# Altium integrated library Atmel Microcontroller ARM.IntLib: 148 symbols (part 7 of 11)
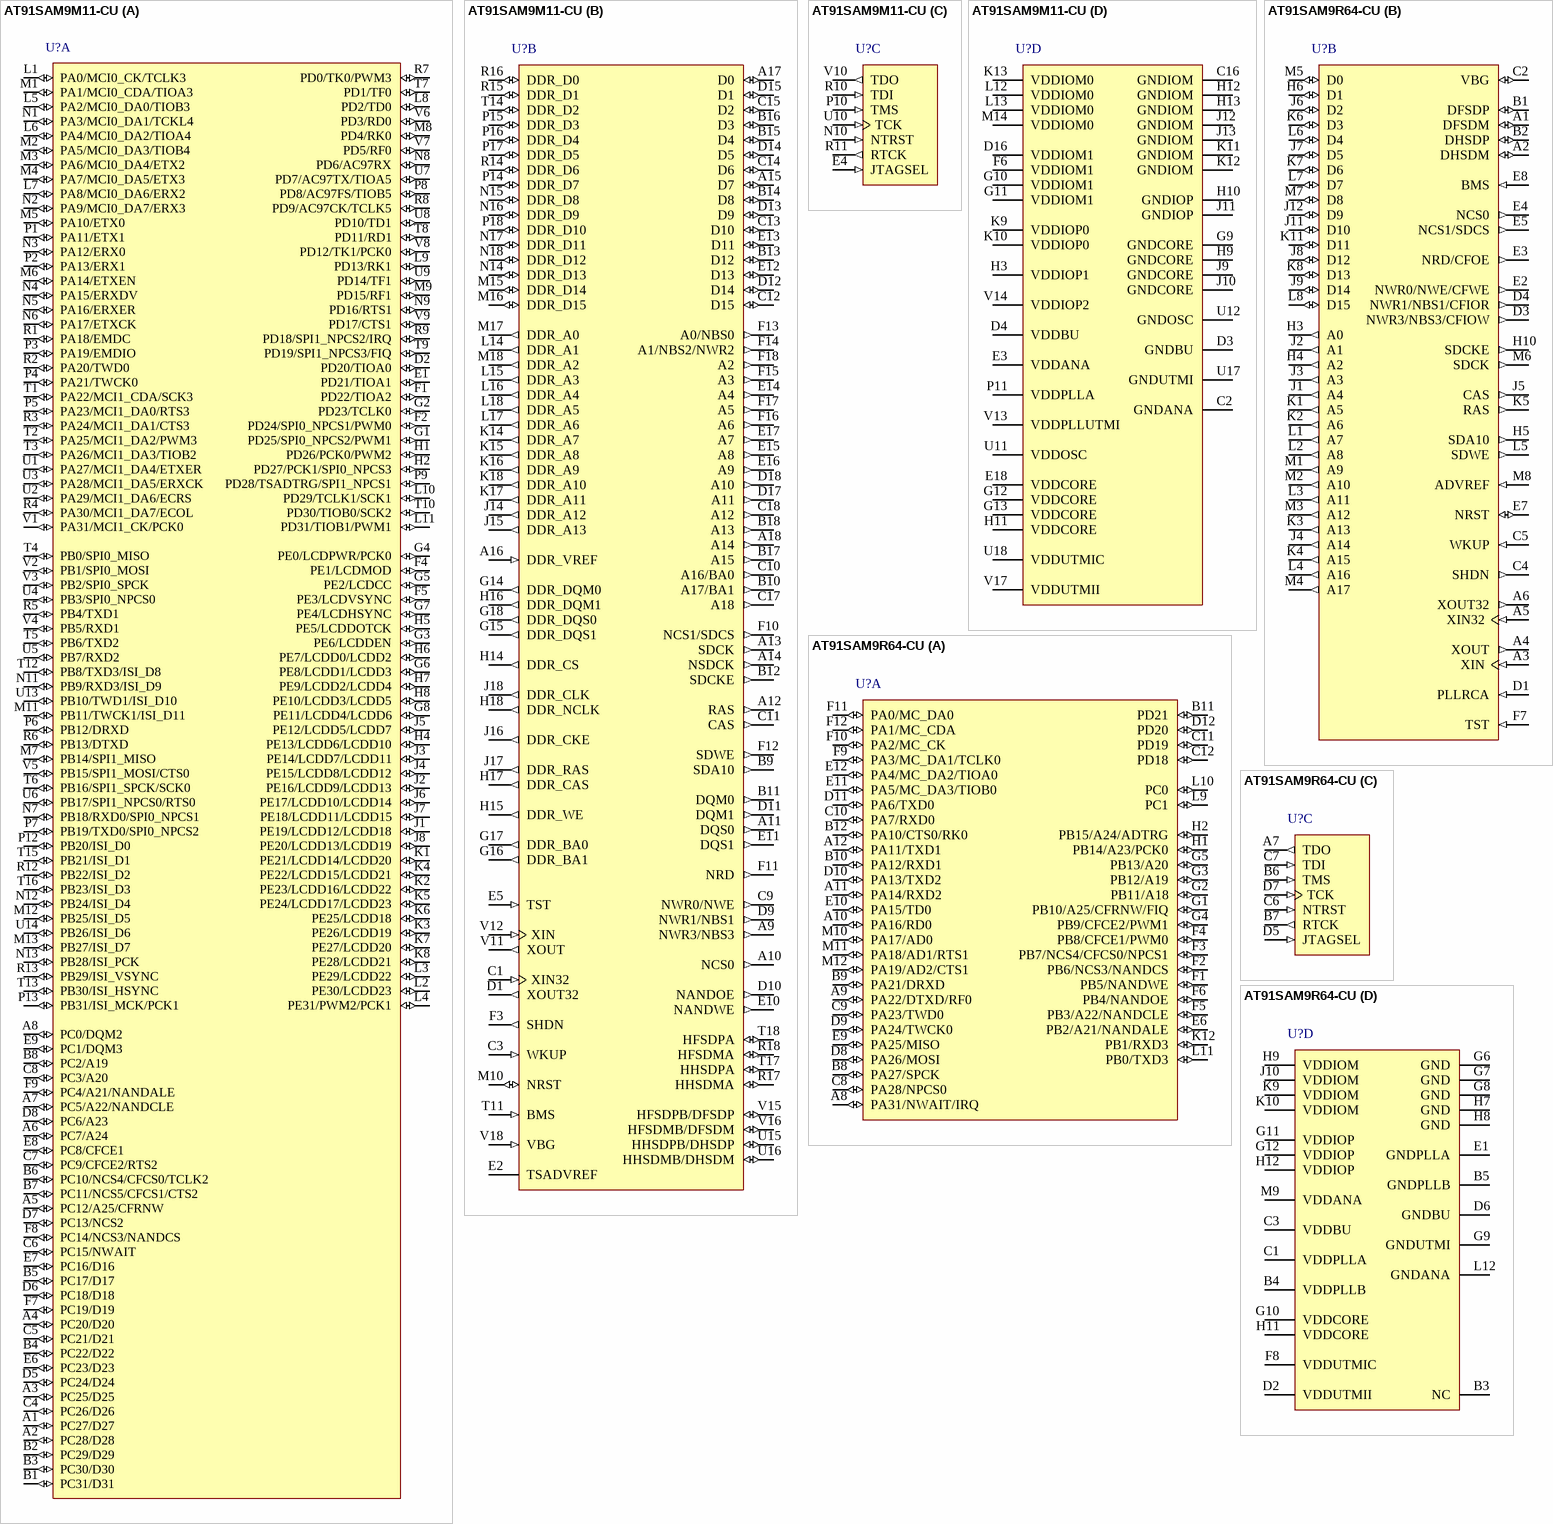
[diagram p67: symbols AT91SAM9M11-CU to AT91SAM9R64-CU]

## AT91SAM9R64-CU
designator U?
AT91 ARM Thumb 32-bit Microcontroller, 32KB ROM, 64KB SRAM, EBI, 3-ch. 10-bit ADC, 18-ch. PDC, 144-Pin LFBGA, Industrial Grade (-40°C to 85°C), Pb-Free; DatasheetVersion: revD, Oct-2011; PackageVersion: 2008; PackageReference: LFBGA144; PackageDescription: 144-Ball Low Profile Fine Pitch BGA, 10 x 10 x 1.4 mm Body, 0.8 mm Pitch; Code_JEDEC: MS-026; ComponentLink1Description: Manufacturer URL; ComponentLink1URL: http://www.atmel.com/; ComponentLink2Description: AT91SAM9R/RL64 Datasheet; ComponentLink2URL: http://www.atmel.com/dyn/resources/prod_documents/doc6289.pdf; ComponentLink3Description: AT91SAM9R/RL64 Summary; ComponentLink3URL: http://www.atmel.com/dyn/resources/prod_documents/6289s.pdf; ComponentLink4Description: ARM926EJ-S Reference Manual; ComponentLink4URL: http://www.atmel.com/dyn/resources/prod_documents/ARM_926EJS_TRM.pdf
footprint LFBGA144 (BGA, 144-Leads, Body 10x10mm, Pitch 0.8mm)
part A pins: A8 PA31/NWAIT/IRQ (io), A9 PA22/DTXD/RF0 (io), A10 PA16/RD0 (io), A11 PA14/RXD2 (io), A12 PA11/TXD1 (io), B8 PA27/SPCK (io), B9 PA21/DRXD (io), B10 PA12/RXD1 (io), B11 PD21 (io), B12 PA10/CTS0/RK0 (io), C8 PA28/NPCS0 (io), C9 PA23/TWD0 (io), C10 PA7/RXD0 (io), C11 PD19 (io), C12 PD18 (io), D8 PA26/MOSI (io), D9 PA24/TWCK0 (io), D10 PA13/TXD2 (io), D11 PA6/TXD0 (io), D12 PD20 (io), E6 PB2/A21/NANDALE (io), E9 PA25/MISO (io), E10 PA15/TD0 (io), E11 PA5/MC_DA3/TIOB0 (io), E12 PA4/MC_DA2/TIOA0 (io), F1 PB5/NANDWE (io), F2 PB6/NCS3/NANDCS (io), F3 PB7/NCS4/CFCS0/NPCS1 (io), F4 PB8/CFCE1/PWM0 (io), F5 PB3/A22/NANDCLE (io), F6 PB4/NANDOE (io), F9 PA3/MC_DA1/TCLK0 (io), F10 PA2/MC_CK (io), F11 PA0/MC_DA0 (io), F12 PA1/MC_CDA (io), G1 PB10/A25/CFRNW/FIQ (io), G2 PB11/A18 (io), G3 PB12/A19 (io), G4 PB9/CFCE2/PWM1 (io), G5 PB13/A20 (io), H1 PB14/A23/PCK0 (io), H2 PB15/A24/ADTRG (io), K12 PB1/RXD3 (io), L9 PC1 (io), L10 PC0 (io), L11 PB0/TXD3 (io), M10 PA17/AD0 (io), M11 PA18/AD1/RTS1 (io), M12 PA19/AD2/CTS1 (io)
part B pins: A1 DFSDM (io), A2 DHSDM (io), A3 XIN (in), A4 XOUT (out), A5 XIN32 (in), A6 XOUT32 (out), B1 DFSDP (io), B2 DHSDP (io), C2 VBG (io), C4 SHDN (out), C5 WKUP (in), D1 PLLRCA (in), D3 NWR3/NBS3/CFIOW (out), D4 NWR1/NBS1/CFIOR (out), E2 NWR0/NWE/CFWE (out), E3 NRD/CFOE (out), E4 NCS0 (out), E5 NCS1/SDCS (out), E7 NRST (io), E8 BMS (in), F7 TST (in), H3 A0 (out), H4 A2 (out), H5 SDA10 (out), H6 D1 (io), H10 SDCKE (out), J1 A4 (out), J2 A1 (out), J3 A3 (out), J4 A14 (out), J5 CAS (out), J6 D2 (io), J7 D5 (io), J8 D12 (io), J9 D14 (io), J11 D10 (io), J12 D9 (io), K1 A5 (out), K2 A6 (out), K3 A13 (out), K4 A15 (out), K5 RAS (out), K6 D3 (io), K7 D6 (io), K8 D13 (io), K11 D11 (io), L1 A7 (out), L2 A8 (out), L3 A11 (out), L4 A16 (out), L5 SDWE (out), L6 D4 (io), L7 D7 (io), L8 D15 (io), M1 A9 (out), M2 A10 (out), M3 A12 (out), M4 A17 (out), M5 D0 (io), M6 SDCK (out), M7 D8 (io), M8 ADVREF (in)
part C pins: A7 TDO (out), B6 TMS (in), B7 RTCK (out), C6 NTRST (in), C7 TDI (in), D5 JTAGSEL (in), D7 TCK (in)
part D pins: B3 NC, B4 VDDPLLB (power), B5 GNDPLLB (power), C1 VDDPLLA (power), C3 VDDBU (power), D2 VDDUTMII (power), D6 GNDBU (power), E1 GNDPLLA (power), F8 VDDUTMIC (power), G6 GND (power), G7 GND (power), G8 GND (power), G9 GNDUTMI (power), G10 VDDCORE (power), G11 VDDIOP (power), G12 VDDIOP (power), H7 GND (power), H8 GND (power), H9 VDDIOM (power), H11 VDDCORE (power), H12 VDDIOP (power), J10 VDDIOM (power), K9 VDDIOM (power), K10 VDDIOM (power), L12 GNDANA (power), M9 VDDANA (power)

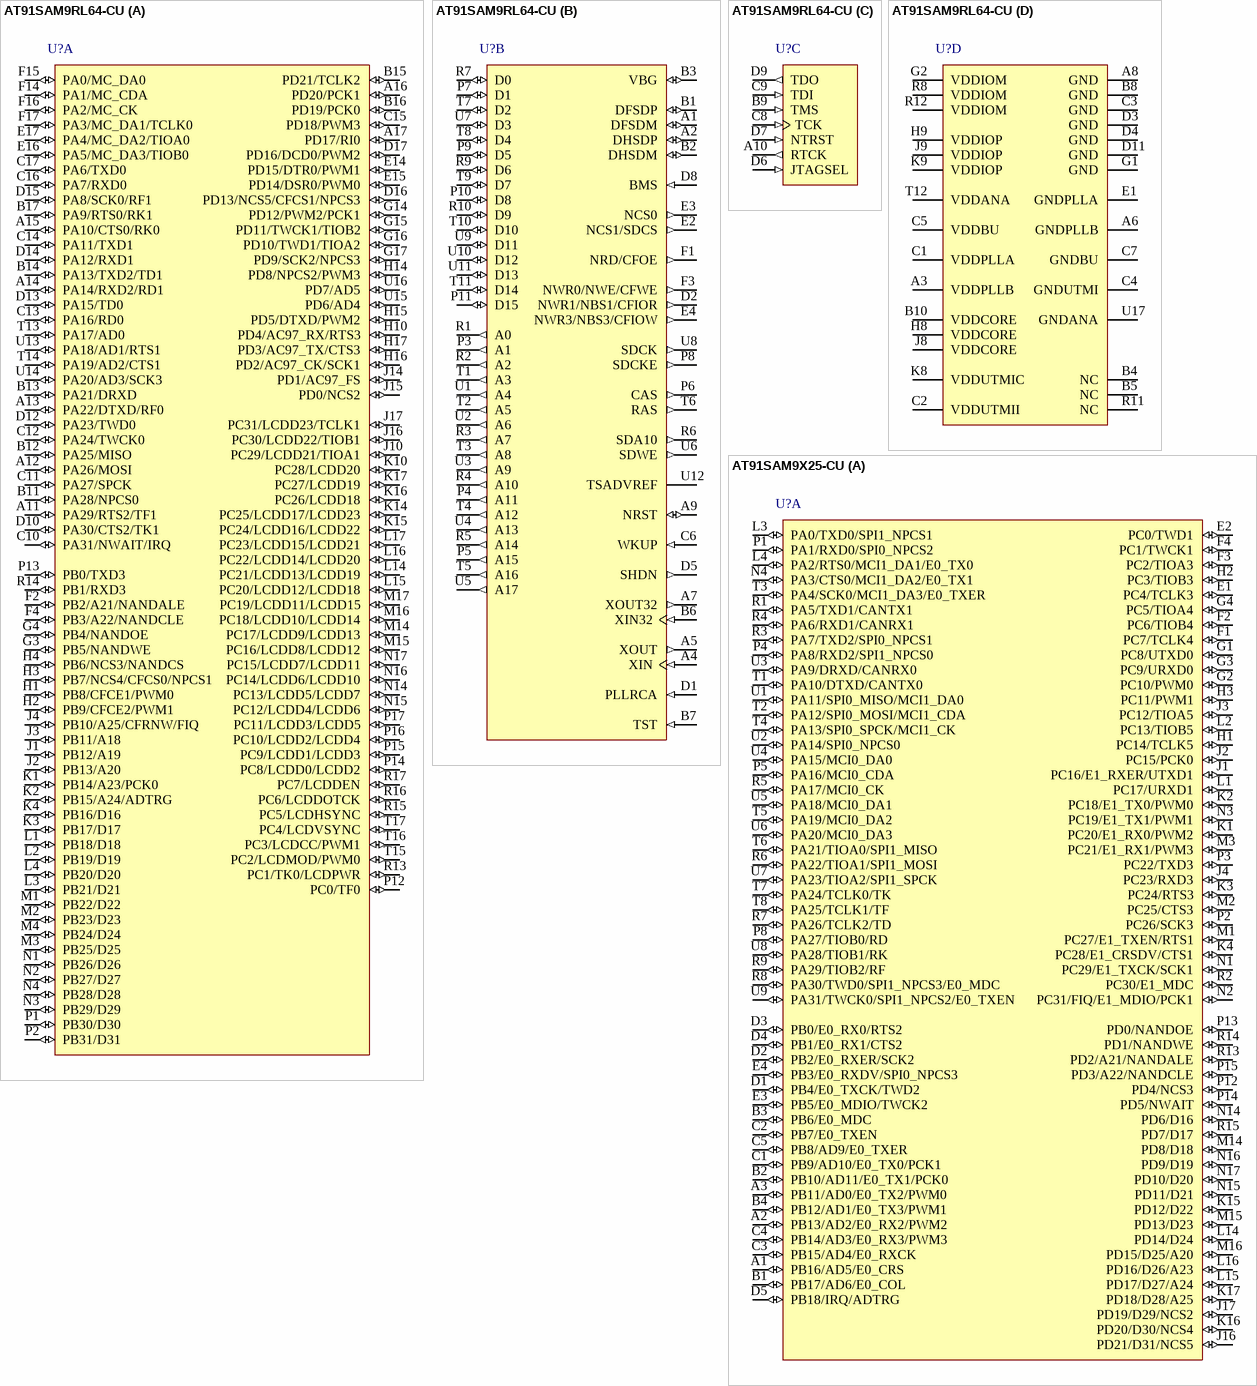
[diagram p39: symbols AT91SAM9RL64-CU to AT91SAM9X25-CU]

## AT91SAM9RL64-CU
designator U?
AT91 ARM Thumb 32-bit Microcontroller, 32KB ROM, 64KB SRAM, EBI, 6-ch. 10-bit ADC, 22-ch. PDC, 217-Pin LFBGA, Industrial Grade (-40°C to 85°C), Pb-Free; DatasheetVersion: revD, Oct-2011; PackageVersion: 2011; PackageReference: LFBGA217; PackageDescription: 217-Ball Plastic Low Profile Fine-Pitch BGA, 15 x 15 mm Body, 0.8 mm Pitch; Code_JEDEC: MO-205; ComponentLink1Description: Manufacturer URL; ComponentLink1URL: http://www.atmel.com/; ComponentLink2Description: AT91SAM9R/RL64 Datasheet; ComponentLink2URL: http://www.atmel.com/dyn/resources/prod_documents/doc6289.pdf; ComponentLink3Description: AT91SAM9R/RL64 Summary; ComponentLink3URL: http://www.atmel.com/dyn/resources/prod_documents/6289s.pdf; ComponentLink4Description: ARM926EJ-S Reference Manual; ComponentLink4URL: http://www.atmel.com/dyn/resources/prod_documents/ARM_926EJS_TRM.pdf
footprint LFBGA217 (BGA, 208-Leads, Body 15x15mm, Pitch 0.8mm, Solder Mask Defined Pads)
part A pins: A11 PA29/RTS2/TF1 (io), A12 PA26/MOSI (io), A13 PA22/DTXD/RF0 (io), A14 PA14/RXD2/RD1 (io), A15 PA10/CTS0/RK0 (io), A16 PD20/PCK1 (io), A17 PD17/RI0 (io), B11 PA28/NPCS0 (io), B12 PA25/MISO (io), B13 PA21/DRXD (io), B14 PA13/TXD2/TD1 (io), B15 PD21/TCLK2 (io), B16 PD19/PCK0 (io), B17 PA9/RTS0/RK1 (io), C10 PA31/NWAIT/IRQ (io), C11 PA27/SPCK (io), C12 PA24/TWCK0 (io), C13 PA16/RD0 (io), C14 PA11/TXD1 (io), C15 PD18/PWM3 (io), C16 PA7/RXD0 (io), C17 PA6/TXD0 (io), D10 PA30/CTS2/TK1 (io), D12 PA23/TWD0 (io), D13 PA15/TD0 (io), D14 PA12/RXD1 (io), D15 PA8/SCK0/RF1 (io), D16 PD13/NCS5/CFCS1/NPCS3 (io), D17 PD16/DCD0/PWM2 (io), E14 PD15/DTR0/PWM1 (io), E15 PD14/DSR0/PWM0 (io), E16 PA5/MC_DA3/TIOB0 (io), E17 PA4/MC_DA2/TIOA0 (io), F2 PB2/A21/NANDALE (io), F4 PB3/A22/NANDCLE (io), F14 PA1/MC_CDA (io), F15 PA0/MC_DA0 (io), F16 PA2/MC_CK (io), F17 PA3/MC_DA1/TCLK0 (io), G3 PB5/NANDWE (io), G4 PB4/NANDOE (io), G14 PD12/PWM2/PCK1 (io), G15 PD11/TWCK1/TIOB2 (io), G16 PD10/TWD1/TIOA2 (io), G17 PD9/SCK2/NPCS3 (io), H1 PB8/CFCE1/PWM0 (io), H2 PB9/CFCE2/PWM1 (io), H3 PB7/NCS4/CFCS0/NPCS1 (io), H4 PB6/NCS3/NANDCS (io), H10 PD4/AC97_RX/RTS3 (io), H14 PD8/NPCS2/PWM3 (io), H15 PD5/DTXD/PWM2 (io), H16 PD2/AC97_CK/SCK1 (io), H17 PD3/AC97_TX/CTS3 (io), J1 PB12/A19 (io), J2 PB13/A20 (io), J3 PB11/A18 (io), J4 PB10/A25/CFRNW/FIQ (io), J10 PC29/LCDD21/TIOA1 (io), J14 PD1/AC97_FS (io), J15 PD0/NCS2 (io), J16 PC30/LCDD22/TIOB1 (io), J17 PC31/LCDD23/TCLK1 (io), K1 PB14/A23/PCK0 (io), K2 PB15/A24/ADTRG (io), K3 PB17/D17 (io), K4 PB16/D16 (io), K10 PC28/LCDD20 (io), K14 PC25/LCDD17/LCDD23 (io), K15 PC24/LCDD16/LCDD22 (io), K16 PC26/LCDD18 (io), K17 PC27/LCDD19 (io), L1 PB18/D18 (io), L2 PB19/D19 (io), L3 PB21/D21 (io), L4 PB20/D20 (io), L14 PC21/LCDD13/LCDD19 (io), L15 PC20/LCDD12/LCDD18 (io), L16 PC22/LCDD14/LCDD20 (io), L17 PC23/LCDD15/LCDD21 (io), M1 PB22/D22 (io), M2 PB23/D23 (io), M3 PB25/D25 (io), M4 PB24/D24 (io), M14 PC17/LCDD9/LCDD13 (io), M15 PC16/LCDD8/LCDD12 (io), M16 PC18/LCDD10/LCDD14 (io), M17 PC19/LCDD11/LCDD15 (io), N1 PB26/D26 (io), N2 PB27/D27 (io), N3 PB29/D29 (io), N4 PB28/D28 (io), N14 PC13/LCDD5/LCDD7 (io), N15 PC12/LCDD4/LCDD6 (io), N16 PC14/LCDD6/LCDD10 (io), N17 PC15/LCDD7/LCDD11 (io), P1 PB30/D30 (io), P2 PB31/D31 (io), P12 PC0/TF0 (io), P13 PB0/TXD3 (io), P14 PC8/LCDD0/LCDD2 (io), P15 PC9/LCDD1/LCDD3 (io), P16 PC10/LCDD2/LCDD4 (io), P17 PC11/LCDD3/LCDD5 (io), R13 PC1/TK0/LCDPWR (io), R14 PB1/RXD3 (io), R15 PC5/LCDHSYNC (io), R16 PC6/LCDDOTCK (io), R17 PC7/LCDDEN (io), T13 PA17/AD0 (io), T14 PA19/AD2/CTS1 (io), T15 PC2/LCDMOD/PWM0 (io), T16 PC3/LCDCC/PWM1 (io), T17 PC4/LCDVSYNC (io), U13 PA18/AD1/RTS1 (io), U14 PA20/AD3/SCK3 (io), U15 PD6/AD4 (io), U16 PD7/AD5 (io)
part B pins: A1 DFSDM (io), A2 DHSDP (io), A4 XIN (in), A5 XOUT (out), A7 XOUT32 (out), A9 NRST (io), B1 DFSDP (io), B2 DHSDM (io), B3 VBG (io), B6 XIN32 (in), B7 TST (in), C6 WKUP (in), D1 PLLRCA (in), D2 NWR1/NBS1/CFIOR (out), D5 SHDN (out), D8 BMS (in), E2 NCS1/SDCS (out), E3 NCS0 (out), E4 NWR3/NBS3/CFIOW (out), F1 NRD/CFOE (out), F3 NWR0/NWE/CFWE (out), P3 A1 (out), P4 A11 (out), P5 A15 (out), P6 CAS (out), P7 D1 (io), P8 SDCKE (out), P9 D5 (io), P10 D8 (io), P11 D15 (io), R1 A0 (out), R2 A2 (out), R3 A7 (out), R4 A10 (out), R5 A14 (out), R6 SDA10 (out), R7 D0 (io), R9 D6 (io), R10 D9 (io), T1 A3 (out), T2 A5 (out), T3 A8 (out), T4 A12 (out), T5 A16 (out), T6 RAS (out), T7 D2 (io), T8 D4 (io), T9 D7 (io), T10 D10 (io), T11 D14 (io), U1 A4 (out), U2 A6 (out), U3 A9 (out), U4 A13 (out), U5 A17 (out), U6 SDWE (out), U7 D3 (io), U8 SDCK (out), U9 D11 (io), U10 D12 (io), U11 D13 (io), U12 TSADVREF (power)
part C pins: A10 RTCK (out), B9 TMS (in), C8 TCK (in), C9 TDI (in), D6 JTAGSEL (in), D7 NTRST (in), D9 TDO (out)
part D pins: A3 VDDPLLB (power), A6 GNDPLLB (power), A8 GND (power), B4 NC, B5 NC, B8 GND (power), B10 VDDCORE (power), C1 VDDPLLA (power), C2 VDDUTMII (power), C3 GND (power), C4 GNDUTMI (power), C5 VDDBU (power), C7 GNDBU (power), D3 GND (power), D4 GND (power), D11 GND (power), E1 GNDPLLA (power), G1 GND (power), G2 VDDIOM (power), H8 VDDCORE (power), H9 VDDIOP (power), J8 VDDCORE (power), J9 VDDIOP (power), K8 VDDUTMIC (power), K9 VDDIOP (power), R8 VDDIOM (power), R11 NC, R12 VDDIOM (power), T12 VDDANA (power), U17 GNDANA (power)

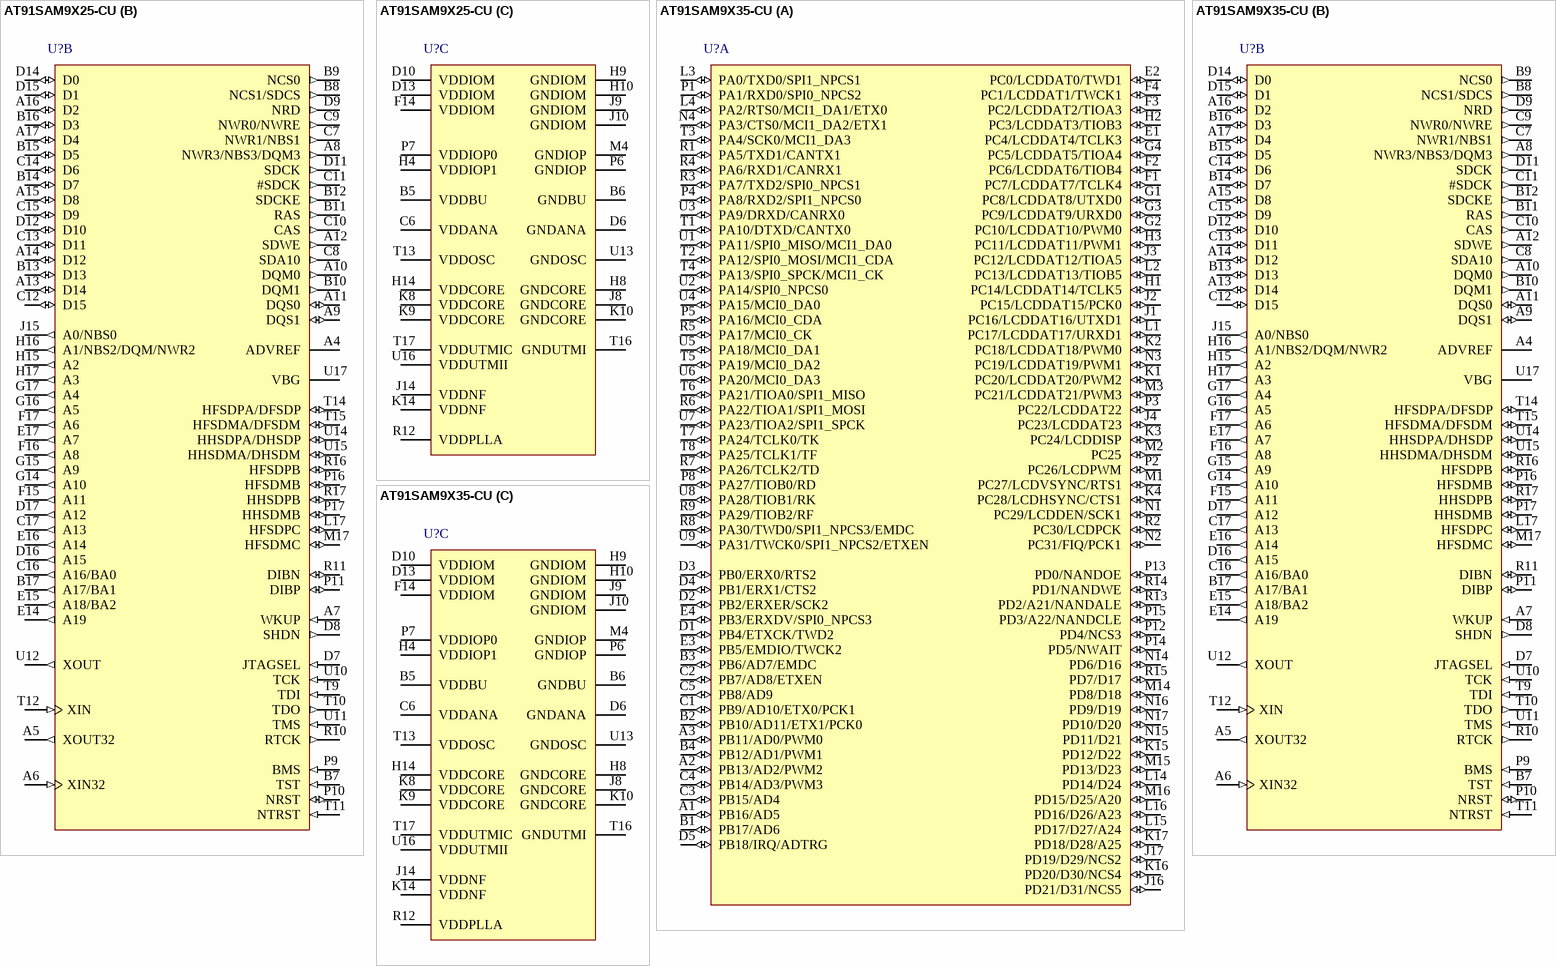
[diagram p40: symbols AT91SAM9X25-CU to AT91SAM9X35-CU]

## AT91SAM9X25-CU
designator U?
AT91 ARM Thumb 32-bit Embedded Microcontroller, 400MHz, 1.0V, Dual Ethernet & CAN, HS USB, LPDDR/DDR2/MLC NAND support, 217-Pin LFBGA; DatasheetVersion: revA, Jul-2011; PackageVersion: 2011; PackageReference: LFBGA217; PackageDescription: 217-Ball Plastic Low Profile Fine-Pitch BGA, 15 x 15 mm Body, 0.8 mm Pitch; Code_JEDEC: MO-205; ComponentLink1Description: Manufacturer URL; ComponentLink1URL: http://www.atmel.com/; ComponentLink2Description: SAM9X25 Datasheet; ComponentLink2URL: http://www.atmel.com/dyn/resources/prod_documents/doc11054.pdf; ComponentLink3Description: SAM9X25 Summary; ComponentLink3URL: http://www.atmel.com/dyn/resources/prod_documents/11054s.pdf
footprint LFBGA217 (BGA, 208-Leads, Body 15x15mm, Pitch 0.8mm, Solder Mask Defined Pads)
part A pins: A1 PB16/AD5/E0_CRS (io), A2 PB13/AD2/E0_RX2/PWM2 (io), A3 PB11/AD0/E0_TX2/PWM0 (io), B1 PB17/AD6/E0_COL (io), B2 PB10/AD11/E0_TX1/PCK0 (io), B3 PB6/E0_MDC (io), B4 PB12/AD1/E0_TX3/PWM1 (io), C1 PB9/AD10/E0_TX0/PCK1 (io), C2 PB7/E0_TXEN (io), C3 PB15/AD4/E0_RXCK (io), C4 PB14/AD3/E0_RX3/PWM3 (io), C5 PB8/AD9/E0_TXER (io), D1 PB4/E0_TXCK/TWD2 (io), D2 PB2/E0_RXER/SCK2 (io), D3 PB0/E0_RX0/RTS2 (io), D4 PB1/E0_RX1/CTS2 (io), D5 PB18/IRQ/ADTRG (io), E1 PC4/TCLK3 (io), E2 PC0/TWD1 (io), E3 PB5/E0_MDIO/TWCK2 (io), E4 PB3/E0_RXDV/SPI0_NPCS3 (io), F1 PC7/TCLK4 (io), F2 PC6/TIOB4 (io), F3 PC2/TIOA3 (io), F4 PC1/TWCK1 (io), G1 PC8/UTXD0 (io), G2 PC10/PWM0 (io), G3 PC9/URXD0 (io), G4 PC5/TIOA4 (io), H1 PC14/TCLK5 (io), H2 PC3/TIOB3 (io), H3 PC11/PWM1 (io), J1 PC16/E1_RXER/UTXD1 (io), J2 PC15/PCK0 (io), J3 PC12/TIOA5 (io), J4 PC23/RXD3 (io), J16 PD21/D31/NCS5 (io), J17 PD19/D29/NCS2 (io), K1 PC20/E1_RX0/PWM2 (io), K2 PC18/E1_TX0/PWM0 (io), K3 PC24/RTS3 (io), K4 PC28/E1_CRSDV/CTS1 (io), K15 PD12/D22 (io), K16 PD20/D30/NCS4 (io), K17 PD18/D28/A25 (io), L1 PC17/URXD1 (io), L2 PC13/TIOB5 (io), L3 PA0/TXD0/SPI1_NPCS1 (io), L4 PA2/RTS0/MCI1_DA1/E0_TX0 (io), L14 PD14/D24 (io), L15 PD17/D27/A24 (io), L16 PD16/D26/A23 (io), M1 PC27/E1_TXEN/RTS1 (io), M2 PC25/CTS3 (io), M3 PC21/E1_RX1/PWM3 (io), M14 PD8/D18 (io), M15 PD13/D23 (io), M16 PD15/D25/A20 (io), N1 PC29/E1_TXCK/SCK1 (io), N2 PC31/FIQ/E1_MDIO/PCK1 (io), N3 PC19/E1_TX1/PWM1 (io), N4 PA3/CTS0/MCI1_DA2/E0_TX1 (io), N14 PD6/D16 (io), N15 PD11/D21 (io), N16 PD9/D19 (io), N17 PD10/D20 (io), P1 PA1/RXD0/SPI0_NPCS2 (io), P2 PC26/SCK3 (io), P3 PC22/TXD3 (io), P4 PA8/RXD2/SPI1_NPCS0 (io), P5 PA16/MCI0_CDA (io), P8 PA27/TIOB0/RD (io), P12 PD4/NCS3 (io), P13 PD0/NANDOE (io), P14 PD5/NWAIT (io), P15 PD3/A22/NANDCLE (io), R1 PA5/TXD1/CANTX1 (io), R2 PC30/E1_MDC (io), R3 PA7/TXD2/SPI0_NPCS1 (io), R4 PA6/RXD1/CANRX1 (io), R5 PA17/MCI0_CK (io), R6 PA22/TIOA1/SPI1_MOSI (io), R7 PA26/TCLK2/TD (io), R8 PA30/TWD0/SPI1_NPCS3/E0_MDC (io), R9 PA29/TIOB2/RF (io), R13 PD2/A21/NANDALE (io), R14 PD1/NANDWE (io), R15 PD7/D17 (io), T1 PA10/DTXD/CANTX0 (io), T2 PA12/SPI0_MOSI/MCI1_CDA (io), T3 PA4/SCK0/MCI1_DA3/E0_TXER (io), T4 PA13/SPI0_SPCK/MCI1_CK (io), T5 PA19/MCI0_DA2 (io), T6 PA21/TIOA0/SPI1_MISO (io), T7 PA24/TCLK0/TK (io), T8 PA25/TCLK1/TF (io), U1 PA11/SPI0_MISO/MCI1_DA0 (io), U2 PA14/SPI0_NPCS0 (io), U3 PA9/DRXD/CANRX0 (io), U4 PA15/MCI0_DA0 (io), U5 PA18/MCI0_DA1 (io), U6 PA20/MCI0_DA3 (io), U7 PA23/TIOA2/SPI1_SPCK (io), U8 PA28/TIOB1/RK (io), U9 PA31/TWCK0/SPI1_NPCS2/E0_TXEN (io)
part B pins: A4 ADVREF (power), A5 XOUT32 (out), A6 XIN32 (in), A7 WKUP (in), A8 NWR3/NBS3/DQM3 (out), A9 DQS1 (io), A10 DQM0 (out), A11 DQS0 (io), A12 SDWE (out), A13 D14 (io), A14 D12 (io), A15 D8 (io), A16 D2 (io), A17 D4 (io), B7 TST (in), B8 NCS1/SDCS (out), B9 NCS0 (out), B10 DQM1 (out), B11 RAS (out), B12 SDCKE (out), B13 D13 (io), B14 D7 (io), B15 D5 (io), B16 D3 (io), B17 A17/BA1 (out), C7 NWR1/NBS1 (out), C8 SDA10 (out), C9 NWR0/NWRE (out), C10 CAS (out), C11 #SDCK (out), C12 D15 (io), C13 D11 (io), C14 D6 (io), C15 D9 (io), C16 A16/BA0 (out), C17 A13 (out), D7 JTAGSEL (in), D8 SHDN (out), D9 NRD (out), D11 SDCK (out), D12 D10 (io), D14 D0 (io), D15 D1 (io), D16 A15 (out), D17 A12 (out), E14 A19 (out), E15 A18/BA2 (out), E16 A14 (out), E17 A7 (out), F15 A11 (out), F16 A8 (out), F17 A6 (out), G14 A10 (out), G15 A9 (out), G16 A5 (out), G17 A4 (out), H15 A2 (out), H16 A1/NBS2/DQM/NWR2 (out), H17 A3 (out), J15 A0/NBS0 (out), L17 HFSDPC (io), M17 HFSDMC (io), P9 BMS (in), P10 NRST (io), P11 DIBP (io), P16 HFSDMB (io), P17 HHSDMB (io), R10 RTCK (out), R11 DIBN (io), R16 HFSDPB (io), R17 HHSDPB (io), T9 TDI (in), T10 TDO (out), T11 NTRST (in), T12 XIN (in), T14 HFSDPA/DFSDP (io), T15 HFSDMA/DFSDM (io), U10 TCK (in), U11 TMS (in), U12 XOUT (out), U14 HHSDPA/DHSDP (io), U15 HHSDMA/DHSDM (io), U17 VBG (power)
part C pins: B5 VDDBU (power), B6 GNDBU (power), C6 VDDANA (power), D6 GNDANA (power), D10 VDDIOM (power), D13 VDDIOM (power), F14 VDDIOM (power), H4 VDDIOP1 (power), H8 GNDCORE (power), H9 GNDIOM (power), H10 GNDIOM (power), H14 VDDCORE (power), J8 GNDCORE (power), J9 GNDIOM (power), J10 GNDIOM (power), J14 VDDNF (power), K8 VDDCORE (power), K9 VDDCORE (power), K10 GNDCORE (power), K14 VDDNF (power), M4 GNDIOP (power), P6 GNDIOP (power), P7 VDDIOP0 (power), R12 VDDPLLA (power), T13 VDDOSC (power), T16 GNDUTMI (power), T17 VDDUTMIC (power), U13 GNDOSC (power), U16 VDDUTMII (power)

## AT91SAM9X35-CU
designator U?
AT91 ARM Thumb 32-bit Embedded Microcontroller, 400MHz, 1.0V, LCD, Touchscreen, Ethernet, Dual CAN, HS USB, LPDDR/DDR2/MLC NAND support, 217-Pin LFBGA; DatasheetVersion: revB, Sep-2011; PackageVersion: 2011; PackageReference: LFBGA217; PackageDescription: 217-Ball Plastic Low Profile Fine-Pitch BGA, 15 x 15 mm Body, 0.8 mm Pitch; Code_JEDEC: MO-205; ComponentLink1Description: Manufacturer URL; ComponentLink1URL: http://www.atmel.com/; ComponentLink2Description: SAM9X35 Datasheet; ComponentLink2URL: http://www.atmel.com/dyn/resources/prod_documents/doc11055.pdf; ComponentLink3Description: SAM9X35 Summary; ComponentLink3URL: http://www.atmel.com/dyn/resources/prod_documents/11055s.pdf
footprint LFBGA217 (BGA, 208-Leads, Body 15x15mm, Pitch 0.8mm, Solder Mask Defined Pads)
part A pins: A1 PB16/AD5 (io), A2 PB13/AD2/PWM2 (io), A3 PB11/AD0/PWM0 (io), B1 PB17/AD6 (io), B2 PB10/AD11/ETX1/PCK0 (io), B3 PB6/AD7/EMDC (io), B4 PB12/AD1/PWM1 (io), C1 PB9/AD10/ETX0/PCK1 (io), C2 PB7/AD8/ETXEN (io), C3 PB15/AD4 (io), C4 PB14/AD3/PWM3 (io), C5 PB8/AD9 (io), D1 PB4/ETXCK/TWD2 (io), D2 PB2/ERXER/SCK2 (io), D3 PB0/ERX0/RTS2 (io), D4 PB1/ERX1/CTS2 (io), D5 PB18/IRQ/ADTRG (io), E1 PC4/LCDDAT4/TCLK3 (io), E2 PC0/LCDDAT0/TWD1 (io), E3 PB5/EMDIO/TWCK2 (io), E4 PB3/ERXDV/SPI0_NPCS3 (io), F1 PC7/LCDDAT7/TCLK4 (io), F2 PC6/LCDDAT6/TIOB4 (io), F3 PC2/LCDDAT2/TIOA3 (io), F4 PC1/LCDDAT1/TWCK1 (io), G1 PC8/LCDDAT8/UTXD0 (io), G2 PC10/LCDDAT10/PWM0 (io), G3 PC9/LCDDAT9/URXD0 (io), G4 PC5/LCDDAT5/TIOA4 (io), H1 PC14/LCDDAT14/TCLK5 (io), H2 PC3/LCDDAT3/TIOB3 (io), H3 PC11/LCDDAT11/PWM1 (io), J1 PC16/LCDDAT16/UTXD1 (io), J2 PC15/LCDDAT15/PCK0 (io), J3 PC12/LCDDAT12/TIOA5 (io), J4 PC23/LCDDAT23 (io), J16 PD21/D31/NCS5 (io), J17 PD19/D29/NCS2 (io), K1 PC20/LCDDAT20/PWM2 (io), K2 PC18/LCDDAT18/PWM0 (io), K3 PC24/LCDDISP (io), K4 PC28/LCDHSYNC/CTS1 (io), K15 PD12/D22 (io), K16 PD20/D30/NCS4 (io), K17 PD18/D28/A25 (io), L1 PC17/LCDDAT17/URXD1 (io), L2 PC13/LCDDAT13/TIOB5 (io), L3 PA0/TXD0/SPI1_NPCS1 (io), L4 PA2/RTS0/MCI1_DA1/ETX0 (io), L14 PD14/D24 (io), L15 PD17/D27/A24 (io), L16 PD16/D26/A23 (io), M1 PC27/LCDVSYNC/RTS1 (io), M2 PC25 (io), M3 PC21/LCDDAT21/PWM3 (io), M14 PD8/D18 (io), M15 PD13/D23 (io), M16 PD15/D25/A20 (io), N1 PC29/LCDDEN/SCK1 (io), N2 PC31/FIQ/PCK1 (io), N3 PC19/LCDDAT19/PWM1 (io), N4 PA3/CTS0/MCI1_DA2/ETX1 (io), N14 PD6/D16 (io), N15 PD11/D21 (io), N16 PD9/D19 (io), N17 PD10/D20 (io), P1 PA1/RXD0/SPI0_NPCS2 (io), P2 PC26/LCDPWM (io), P3 PC22/LCDDAT22 (io), P4 PA8/RXD2/SPI1_NPCS0 (io), P5 PA16/MCI0_CDA (io), P8 PA27/TIOB0/RD (io), P12 PD4/NCS3 (io), P13 PD0/NANDOE (io), P14 PD5/NWAIT (io), P15 PD3/A22/NANDCLE (io), R1 PA5/TXD1/CANTX1 (io), R2 PC30/LCDPCK (io), R3 PA7/TXD2/SPI0_NPCS1 (io), R4 PA6/RXD1/CANRX1 (io), R5 PA17/MCI0_CK (io), R6 PA22/TIOA1/SPI1_MOSI (io), R7 PA26/TCLK2/TD (io), R8 PA30/TWD0/SPI1_NPCS3/EMDC (io), R9 PA29/TIOB2/RF (io), R13 PD2/A21/NANDALE (io), R14 PD1/NANDWE (io), R15 PD7/D17 (io), T1 PA10/DTXD/CANTX0 (io), T2 PA12/SPI0_MOSI/MCI1_CDA (io), T3 PA4/SCK0/MCI1_DA3 (io), T4 PA13/SPI0_SPCK/MCI1_CK (io), T5 PA19/MCI0_DA2 (io), T6 PA21/TIOA0/SPI1_MISO (io), T7 PA24/TCLK0/TK (io), T8 PA25/TCLK1/TF (io), U1 PA11/SPI0_MISO/MCI1_DA0 (io), U2 PA14/SPI0_NPCS0 (io), U3 PA9/DRXD/CANRX0 (io), U4 PA15/MCI0_DA0 (io), U5 PA18/MCI0_DA1 (io), U6 PA20/MCI0_DA3 (io), U7 PA23/TIOA2/SPI1_SPCK (io), U8 PA28/TIOB1/RK (io), U9 PA31/TWCK0/SPI1_NPCS2/ETXEN (io)
part B pins: A4 ADVREF (power), A5 XOUT32 (out), A6 XIN32 (in), A7 WKUP (in), A8 NWR3/NBS3/DQM3 (out), A9 DQS1 (io), A10 DQM0 (out), A11 DQS0 (io), A12 SDWE (out), A13 D14 (io), A14 D12 (io), A15 D8 (io), A16 D2 (io), A17 D4 (io), B7 TST (in), B8 NCS1/SDCS (out), B9 NCS0 (out), B10 DQM1 (out), B11 RAS (out), B12 SDCKE (out), B13 D13 (io), B14 D7 (io), B15 D5 (io), B16 D3 (io), B17 A17/BA1 (out), C7 NWR1/NBS1 (out), C8 SDA10 (out), C9 NWR0/NWRE (out), C10 CAS (out), C11 #SDCK (out), C12 D15 (io), C13 D11 (io), C14 D6 (io), C15 D9 (io), C16 A16/BA0 (out), C17 A13 (out), D7 JTAGSEL (in), D8 SHDN (out), D9 NRD (out), D11 SDCK (out), D12 D10 (io), D14 D0 (io), D15 D1 (io), D16 A15 (out), D17 A12 (out), E14 A19 (out), E15 A18/BA2 (out), E16 A14 (out), E17 A7 (out), F15 A11 (out), F16 A8 (out), F17 A6 (out), G14 A10 (out), G15 A9 (out), G16 A5 (out), G17 A4 (out), H15 A2 (out), H16 A1/NBS2/DQM/NWR2 (out), H17 A3 (out), J15 A0/NBS0 (out), L17 HFSDPC (io), M17 HFSDMC (io), P9 BMS (in), P10 NRST (io), P11 DIBP (io), P16 HFSDMB (io), P17 HHSDMB (io), R10 RTCK (out), R11 DIBN (io), R16 HFSDPB (io), R17 HHSDPB (io), T9 TDI (in), T10 TDO (out), T11 NTRST (in), T12 XIN (in), T14 HFSDPA/DFSDP (io), T15 HFSDMA/DFSDM (io), U10 TCK (in), U11 TMS (in), U12 XOUT (out), U14 HHSDPA/DHSDP (io), U15 HHSDMA/DHSDM (io), U17 VBG (power)
part C pins: B5 VDDBU (power), B6 GNDBU (power), C6 VDDANA (power), D6 GNDANA (power), D10 VDDIOM (power), D13 VDDIOM (power), F14 VDDIOM (power), H4 VDDIOP1 (power), H8 GNDCORE (power), H9 GNDIOM (power), H10 GNDIOM (power), H14 VDDCORE (power), J8 GNDCORE (power), J9 GNDIOM (power), J10 GNDIOM (power), J14 VDDNF (power), K8 VDDCORE (power), K9 VDDCORE (power), K10 GNDCORE (power), K14 VDDNF (power), M4 GNDIOP (power), P6 GNDIOP (power), P7 VDDIOP0 (power), R12 VDDPLLA (power), T13 VDDOSC (power), T16 GNDUTMI (power), T17 VDDUTMIC (power), U13 GNDOSC (power), U16 VDDUTMII (power)

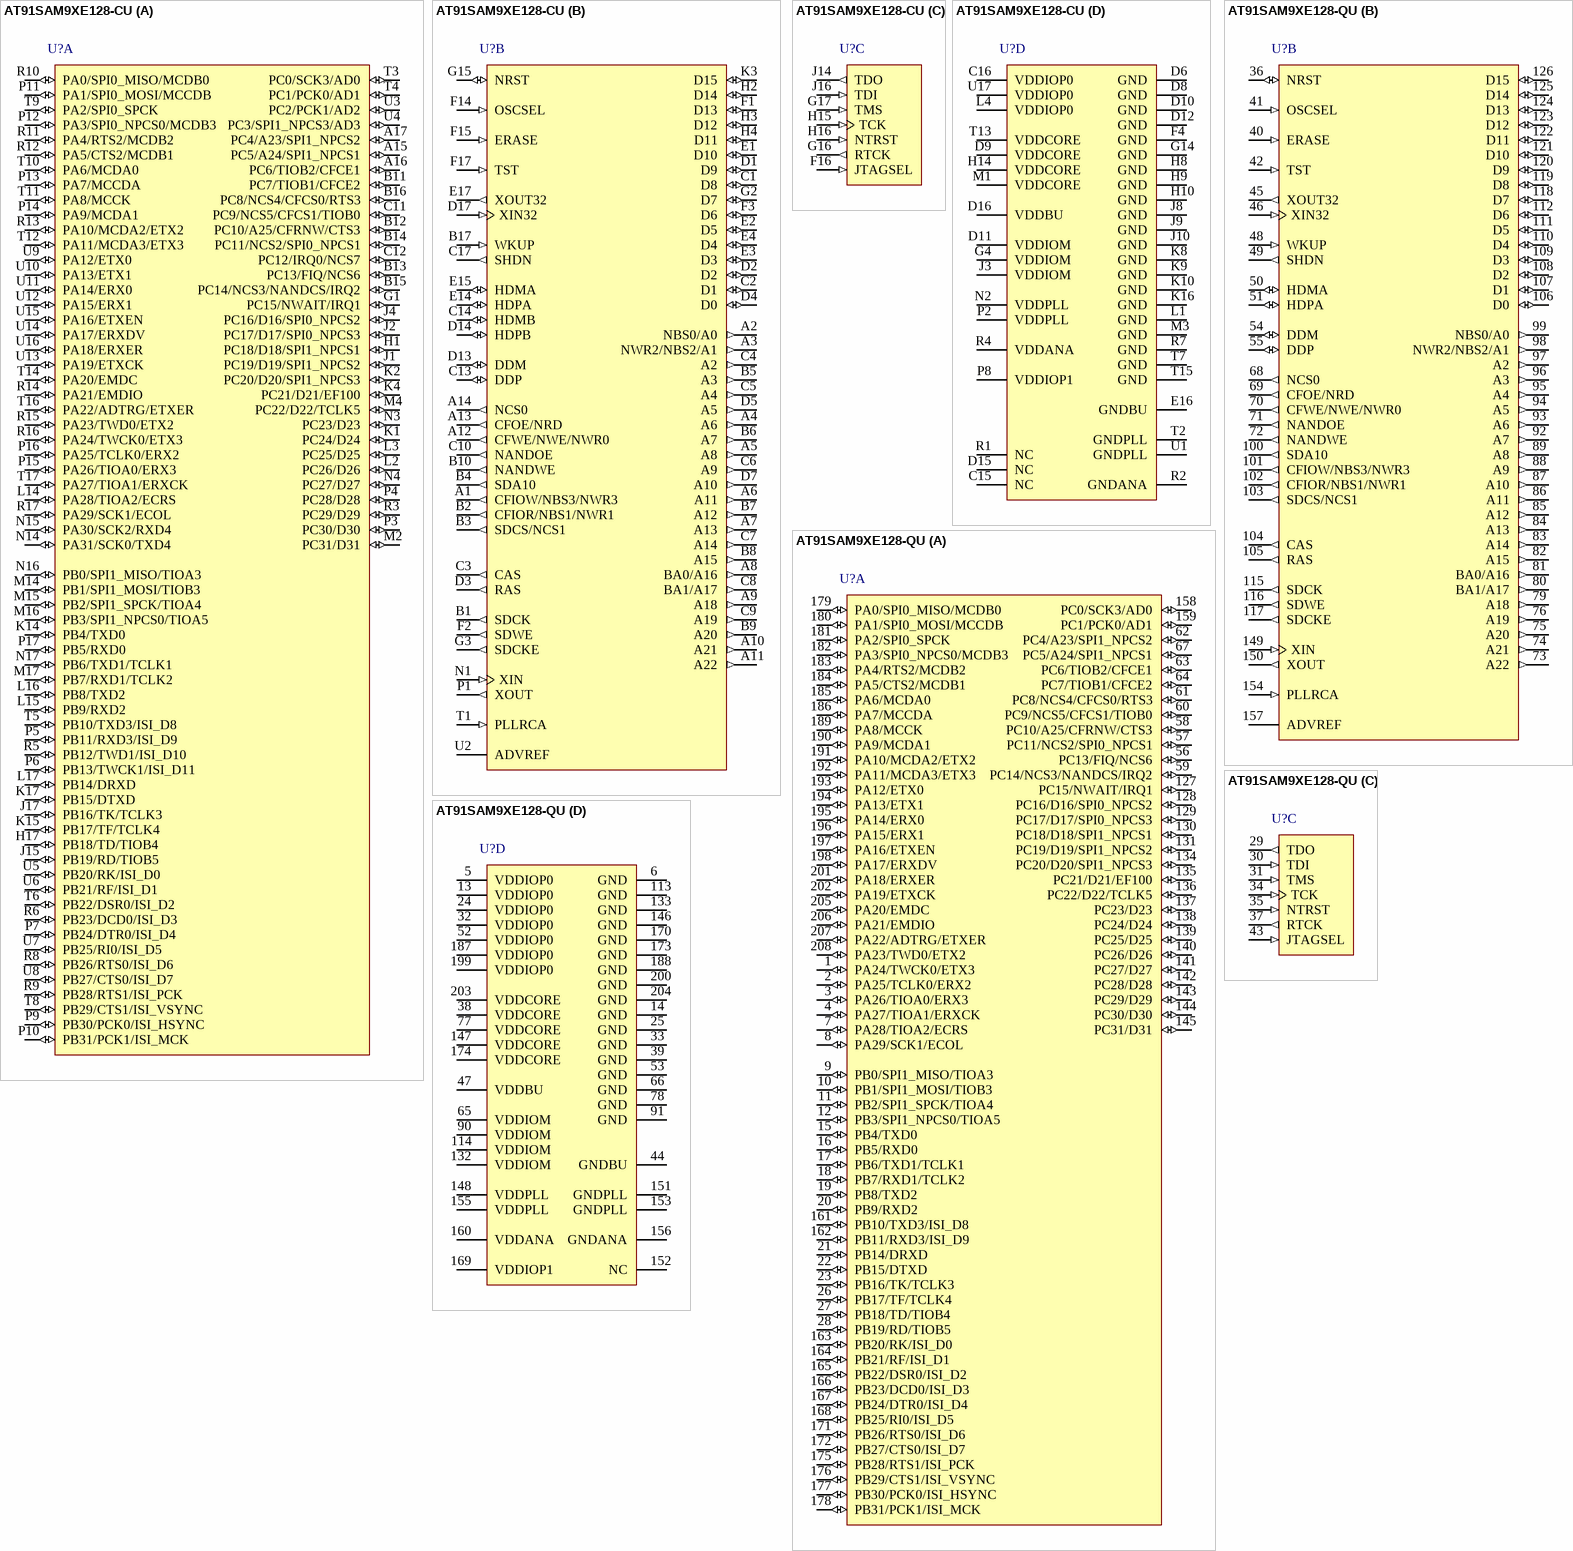
[diagram p41: symbols AT91SAM9XE128-CU to AT91SAM9XE128-QU]

## AT91SAM9XE128-CU
designator U?
AT91 ARM Thumb 32-bit Microcontroller, 128KB Flash, 32KB ROM, 16KB SRAM, EBI, E-MAC, FS USB, ISI, 217-Pin LFBGA, Industrial Grade (-40°C to 85°C), Pb-Free; DatasheetVersion: revC, Jan-2010; PackageVersion: 2011; PackageReference: LFBGA217; PackageDescription: 217-Ball Plastic Low Profile Fine-Pitch BGA, 15 x 15 mm Body, 0.8 mm Pitch; Code_JEDEC: MO-205; ComponentLink1Description: Manufacturer URL; ComponentLink1URL: http://www.atmel.com/; ComponentLink2Description: AT91SAM9XE128/256/512 Datasheet; ComponentLink2URL: http://www.atmel.com/dyn/resources/prod_documents/doc6254.pdf; ComponentLink3Description: AT91SAM9XE128/256/512 Summary; ComponentLink3URL: http://www.atmel.com/dyn/resources/prod_documents/6254s.pdf; ComponentLink4Description: ARM926EJ-S Reference Manual; ComponentLink4URL: http://www.atmel.com/dyn/resources/prod_documents/ARM_926EJS_TRM.pdf
footprint LFBGA217 (BGA, 208-Leads, Body 15x15mm, Pitch 0.8mm, Solder Mask Defined Pads)
part A pins: A15 PC5/A24/SPI1_NPCS1 (io), A16 PC6/TIOB2/CFCE1 (io), A17 PC4/A23/SPI1_NPCS2 (io), B11 PC7/TIOB1/CFCE2 (io), B12 PC10/A25/CFRNW/CTS3 (io), B13 PC13/FIQ/NCS6 (io), B14 PC11/NCS2/SPI0_NPCS1 (io), B15 PC14/NCS3/NANDCS/IRQ2 (io), B16 PC8/NCS4/CFCS0/RTS3 (io), C11 PC9/NCS5/CFCS1/TIOB0 (io), C12 PC12/IRQ0/NCS7 (io), G1 PC15/NWAIT/IRQ1 (io), H1 PC18/D18/SPI1_NPCS1 (io), H17 PB18/TD/TIOB4 (io), J1 PC19/D19/SPI1_NPCS2 (io), J2 PC17/D17/SPI0_NPCS3 (io), J4 PC16/D16/SPI0_NPCS2 (io), J15 PB19/RD/TIOB5 (io), J17 PB16/TK/TCLK3 (io), K1 PC24/D24 (io), K2 PC20/D20/SPI1_NPCS3 (io), K4 PC21/D21/EF100 (io), K14 PB4/TXD0 (io), K15 PB17/TF/TCLK4 (io), K17 PB15/DTXD (io), L2 PC26/D26 (io), L3 PC25/D25 (io), L14 PA28/TIOA2/ECRS (io), L15 PB9/RXD2 (io), L16 PB8/TXD2 (io), L17 PB14/DRXD (io), M2 PC31/D31 (io), M4 PC22/D22/TCLK5 (io), M14 PB1/SPI1_MOSI/TIOB3 (io), M15 PB2/SPI1_SPCK/TIOA4 (io), M16 PB3/SPI1_NPCS0/TIOA5 (io), M17 PB7/RXD1/TCLK2 (io), N3 PC23/D23 (io), N4 PC27/D27 (io), N14 PA31/SCK0/TXD4 (io), N15 PA30/SCK2/RXD4 (io), N16 PB0/SPI1_MISO/TIOA3 (io), N17 PB6/TXD1/TCLK1 (io), P3 PC30/D30 (io), P4 PC28/D28 (io), P5 PB11/RXD3/ISI_D9 (io), P6 PB13/TWCK1/ISI_D11 (io), P7 PB24/DTR0/ISI_D4 (io), P9 PB30/PCK0/ISI_HSYNC (io), P10 PB31/PCK1/ISI_MCK (io), P11 PA1/SPI0_MOSI/MCCDB (io), P12 PA3/SPI0_NPCS0/MCDB3 (io), P13 PA7/MCCDA (io), P14 PA9/MCDA1 (io), P15 PA26/TIOA0/ERX3 (io), P16 PA25/TCLK0/ERX2 (io), P17 PB5/RXD0 (io), R3 PC29/D29 (io), R5 PB12/TWD1/ISI_D10 (io), R6 PB23/DCD0/ISI_D3 (io), R8 PB26/RTS0/ISI_D6 (io), R9 PB28/RTS1/ISI_PCK (io), R10 PA0/SPI0_MISO/MCDB0 (io), R11 PA4/RTS2/MCDB2 (io), R12 PA5/CTS2/MCDB1 (io), R13 PA10/MCDA2/ETX2 (io), R14 PA21/EMDIO (io), R15 PA23/TWD0/ETX2 (io), R16 PA24/TWCK0/ETX3 (io), R17 PA29/SCK1/ECOL (io), T3 PC0/SCK3/AD0 (io), T4 PC1/PCK0/AD1 (io), T5 PB10/TXD3/ISI_D8 (io), T6 PB22/DSR0/ISI_D2 (io), T8 PB29/CTS1/ISI_VSYNC (io), T9 PA2/SPI0_SPCK (io), T10 PA6/MCDA0 (io), T11 PA8/MCCK (io), T12 PA11/MCDA3/ETX3 (io), T14 PA20/EMDC (io), T16 PA22/ADTRG/ETXER (io), T17 PA27/TIOA1/ERXCK (io), U3 PC2/PCK1/AD2 (io), U4 PC3/SPI1_NPCS3/AD3 (io), U5 PB20/RK/ISI_D0 (io), U6 PB21/RF/ISI_D1 (io), U7 PB25/RI0/ISI_D5 (io), U8 PB27/CTS0/ISI_D7 (io), U9 PA12/ETX0 (io), U10 PA13/ETX1 (io), U11 PA14/ERX0 (io), U12 PA15/ERX1 (io), U13 PA19/ETXCK (io), U14 PA17/ERXDV (io), U15 PA16/ETXEN (io), U16 PA18/ERXER (io)
part B pins: A1 CFIOW/NBS3/NWR3 (out), A2 NBS0/A0 (out), A3 NWR2/NBS2/A1 (out), A4 A6 (out), A5 A8 (out), A6 A11 (out), A7 A13 (out), A8 BA0/A16 (out), A9 A18 (out), A10 A21 (out), A11 A22 (out), A12 CFWE/NWE/NWR0 (out), A13 CFOE/NRD (out), A14 NCS0 (out), B1 SDCK (out), B2 CFIOR/NBS1/NWR1 (out), B3 SDCS/NCS1 (out), B4 SDA10 (out), B5 A3 (out), B6 A7 (out), B7 A12 (out), B8 A15 (out), B9 A20 (out), B10 NANDWE (out), B17 WKUP (in), C1 D8 (io), C2 D1 (io), C3 CAS (out), C4 A2 (out), C5 A4 (out), C6 A9 (out), C7 A14 (out), C8 BA1/A17 (out), C9 A19 (out), C10 NANDOE (out), C13 DDP (io), C14 HDMB (io), C17 SHDN (out), D1 D9 (io), D2 (io), D3 RAS (out), D4 D0 (io), D5 A5 (out), D7 A10 (out), D13 DDM (io), D14 HDPB (io), D17 XIN32 (in), E1 D10 (io), E2 D5 (io), E3 D3 (io), E4 D4 (io), E14 HDPA (io), E15 HDMA (io), E17 XOUT32 (out), F1 D13 (io), F2 SDWE (out), F3 D6 (io), F14 OSCSEL (in), F15 ERASE (in), F17 TST (in), G2 D7 (io), G3 SDCKE (out), G15 NRST (io), H2 D14 (io), H3 D12 (io), H4 D11 (io), K3 D15 (io), N1 XIN (in), P1 XOUT (out), T1 PLLRCA (in), U2 ADVREF (power)
part C pins: F16 JTAGSEL (in), G16 RTCK (out), G17 TMS (in), H15 TCK (in), H16 NTRST (in), J14 TDO (out), J16 TDI (in)
part D pins: C15 NC, C16 VDDIOP0 (power), D6 GND (power), D8 GND (power), D9 VDDCORE (power), D10 GND (power), D11 VDDIOM (power), D12 GND (power), D15 NC, D16 VDDBU (power), E16 GNDBU (power), F4 GND (power), G4 VDDIOM (power), G14 GND (power), H8 GND (power), H9 GND (power), H10 GND (power), H14 VDDCORE (power), J3 VDDIOM (power), J8 GND (power), J9 GND (power), J10 GND (power), K8 GND (power), K9 GND (power), K10 GND (power), K16 GND (power), L1 GND (power), L4 VDDIOP0 (power), M1 VDDCORE (power), M3 GND (power), N2 VDDPLL (power), P2 VDDPLL (power), P8 VDDIOP1 (power), R1 NC, R2 GNDANA (power), R4 VDDANA (power), R7 GND (power), T2 GNDPLL (power), T7 GND (power), T13 VDDCORE (power), T15 GND (power), U1 GNDPLL (power), U17 VDDIOP0 (power)

## AT91SAM9XE128-QU
designator U?
AT91 ARM Thumb 32-bit Microcontroller, 128KB Flash, 32KB ROM, 16KB SRAM, EBI, E-MAC, FS USB, ISI, 208-Pin PQFP, Industrial Grade (-40°C to 85°C), Pb-Free; DatasheetVersion: revC, Jan-2010; PackageVersion: Jul-2005; PackageReference: QFP208; PackageDescription: 208-Pin Plastic Shrink Quad Flat Pack 0.5 mm Pitch; Code_JEDEC: MS-022; ComponentLink1Description: Manufacturer URL; ComponentLink1URL: http://www.atmel.com/; ComponentLink2Description: AT91SAM9XE128/256/512 Datasheet; ComponentLink2URL: http://www.atmel.com/dyn/resources/prod_documents/doc6254.pdf; ComponentLink3Description: AT91SAM9XE128/256/512 Summary; ComponentLink3URL: http://www.atmel.com/dyn/resources/prod_documents/6254s.pdf; ComponentLink4Description: ARM926EJ-S Reference Manual; ComponentLink4URL: http://www.atmel.com/dyn/resources/prod_documents/ARM_926EJS_TRM.pdf
footprint QFP208_N (Shrink QFP, 208-Leads, Body 28x28mm, Pitch 0.5mm, IPC Medium Density)
footprint QFP208_L (Shrink QFP, 208-Leads, Body 28x28mm, Pitch 0.5mm, IPC High Density)
footprint QFP208_M (Shrink QFP, 208-Leads, Body 28x28mm, Pitch 0.5mm, IPC Low Density)
part A pins: 1 PA24/TWCK0/ETX3 (io), 2 PA25/TCLK0/ERX2 (io), 3 PA26/TIOA0/ERX3 (io), 4 PA27/TIOA1/ERXCK (io), 7 PA28/TIOA2/ECRS (io), 8 PA29/SCK1/ECOL (io), 9 PB0/SPI1_MISO/TIOA3 (io), 10 PB1/SPI1_MOSI/TIOB3 (io), 11 PB2/SPI1_SPCK/TIOA4 (io), 12 PB3/SPI1_NPCS0/TIOA5 (io), 15 PB4/TXD0 (io), 16 PB5/RXD0 (io), 17 PB6/TXD1/TCLK1 (io), 18 PB7/RXD1/TCLK2 (io), 19 PB8/TXD2 (io), 20 PB9/RXD2 (io), 21 PB14/DRXD (io), 22 PB15/DTXD (io), 23 PB16/TK/TCLK3 (io), 26 PB17/TF/TCLK4 (io), 27 PB18/TD/TIOB4 (io), 28 PB19/RD/TIOB5 (io), 56 PC13/FIQ/NCS6 (io), 57 PC11/NCS2/SPI0_NPCS1 (io), 58 PC10/A25/CFRNW/CTS3 (io), 59 PC14/NCS3/NANDCS/IRQ2 (io), 60 PC9/NCS5/CFCS1/TIOB0 (io), 61 PC8/NCS4/CFCS0/RTS3 (io), 62 PC4/A23/SPI1_NPCS2 (io), 63 PC6/TIOB2/CFCE1 (io), 64 PC7/TIOB1/CFCE2 (io), 67 PC5/A24/SPI1_NPCS1 (io), 127 PC15/NWAIT/IRQ1 (io), 128 PC16/D16/SPI0_NPCS2 (io), 129 PC17/D17/SPI0_NPCS3 (io), 130 PC18/D18/SPI1_NPCS1 (io), 131 PC19/D19/SPI1_NPCS2 (io), 134 PC20/D20/SPI1_NPCS3 (io), 135 PC21/D21/EF100 (io), 136 PC22/D22/TCLK5 (io), 137 PC23/D23 (io), 138 PC24/D24 (io), 139 PC25/D25 (io), 140 PC26/D26 (io), 141 PC27/D27 (io), 142 PC28/D28 (io), 143 PC29/D29 (io), 144 PC30/D30 (io), 145 PC31/D31 (io), 158 PC0/SCK3/AD0 (io), 159 PC1/PCK0/AD1 (io), 161 PB10/TXD3/ISI_D8 (io), 162 PB11/RXD3/ISI_D9 (io), 163 PB20/RK/ISI_D0 (io), 164 PB21/RF/ISI_D1 (io), 165 PB22/DSR0/ISI_D2 (io), 166 PB23/DCD0/ISI_D3 (io), 167 PB24/DTR0/ISI_D4 (io), 168 PB25/RI0/ISI_D5 (io), 171 PB26/RTS0/ISI_D6 (io), 172 PB27/CTS0/ISI_D7 (io), 175 PB28/RTS1/ISI_PCK (io), 176 PB29/CTS1/ISI_VSYNC (io), 177 PB30/PCK0/ISI_HSYNC (io), 178 PB31/PCK1/ISI_MCK (io), 179 PA0/SPI0_MISO/MCDB0 (io), 180 PA1/SPI0_MOSI/MCCDB (io), 181 PA2/SPI0_SPCK (io), 182 PA3/SPI0_NPCS0/MCDB3 (io), 183 PA4/RTS2/MCDB2 (io), 184 PA5/CTS2/MCDB1 (io), 185 PA6/MCDA0 (io), 186 PA7/MCCDA (io), 189 PA8/MCCK (io), 190 PA9/MCDA1 (io), 191 PA10/MCDA2/ETX2 (io), 192 PA11/MCDA3/ETX3 (io), 193 PA12/ETX0 (io), 194 PA13/ETX1 (io), 195 PA14/ERX0 (io), 196 PA15/ERX1 (io), 197 PA16/ETXEN (io), 198 PA17/ERXDV (io), 201 PA18/ERXER (io), 202 PA19/ETXCK (io), 205 PA20/EMDC (io), 206 PA21/EMDIO (io), 207 PA22/ADTRG/ETXER (io), 208 PA23/TWD0/ETX2 (io)
part B pins: 36 NRST (io), 40 ERASE (in), 41 OSCSEL (in), 42 TST (in), 45 XOUT32 (out), 46 XIN32 (in), 48 WKUP (in), 49 SHDN (out), 50 HDMA (io), 51 HDPA (io), 54 DDM (io), 55 DDP (io), 68 NCS0 (out), 69 CFOE/NRD (out), 70 CFWE/NWE/NWR0 (out), 71 NANDOE (out), 72 NANDWE (out), 73 A22 (out), 74 A21 (out), 75 A20 (out), 76 A19 (out), 79 A18 (out), 80 BA1/A17 (out), 81 BA0/A16 (out), 82 A15 (out), 83 A14 (out), 84 A13 (out), 85 A12 (out), 86 A11 (out), 87 A10 (out), 88 A9 (out), 89 A8 (out), 92 A7 (out), 93 A6 (out), 94 A5 (out), 95 A4 (out), 96 A3 (out), 97 A2 (out), 98 NWR2/NBS2/A1 (out), 99 NBS0/A0 (out), 100 SDA10 (out), 101 CFIOW/NBS3/NWR3 (out), 102 CFIOR/NBS1/NWR1 (out), 103 SDCS/NCS1 (out), 104 CAS (out), 105 RAS (out), 106 D0 (io), 107 D1 (io), 108 D2 (io), 109 D3 (io), 110 D4 (io), 111 D5 (io), 112 D6 (io), 115 SDCK (out), 116 SDWE (out), 117 SDCKE (out), 118 D7 (io), 119 D8 (io), 120 D9 (io), 121 D10 (io), 122 D11 (io), 123 D12 (io), 124 D13 (io), 125 D14 (io), 126 D15 (io), 149 XIN (in), 150 XOUT (out), 154 PLLRCA (in), 157 ADVREF (power)
part C pins: 29 TDO (out), 30 TDI (in), 31 TMS (in), 34 TCK (in), 35 NTRST (in), 37 RTCK (out), 43 JTAGSEL (in)
part D pins: 5 VDDIOP0 (power), 6 GND (power), 13 VDDIOP0 (power), 14 GND (power), 24 VDDIOP0 (power), 25 GND (power), 32 VDDIOP0 (power), 33 GND (power), 38 VDDCORE (power), 39 GND (power), 44 GNDBU (power), 47 VDDBU (power), 52 VDDIOP0 (power), 53 GND (power), 65 VDDIOM (power), 66 GND (power), 77 VDDCORE (power), 78 GND (power), 90 VDDIOM (power), 91 GND (power), 113 GND (power), 114 VDDIOM (power), 132 VDDIOM (power), 133 GND (power), 146 GND (power), 147 VDDCORE (power), 148 VDDPLL (power), 151 GNDPLL (power), 152 NC, 153 GNDPLL (power), 155 VDDPLL (power), 156 GNDANA (power), 160 VDDANA (power), 169 VDDIOP1 (power), 170 GND (power), 173 GND (power), 174 VDDCORE (power), 187 VDDIOP0 (power), 188 GND (power), 199 VDDIOP0 (power), 200 GND (power), 203 VDDCORE (power), 204 GND (power)

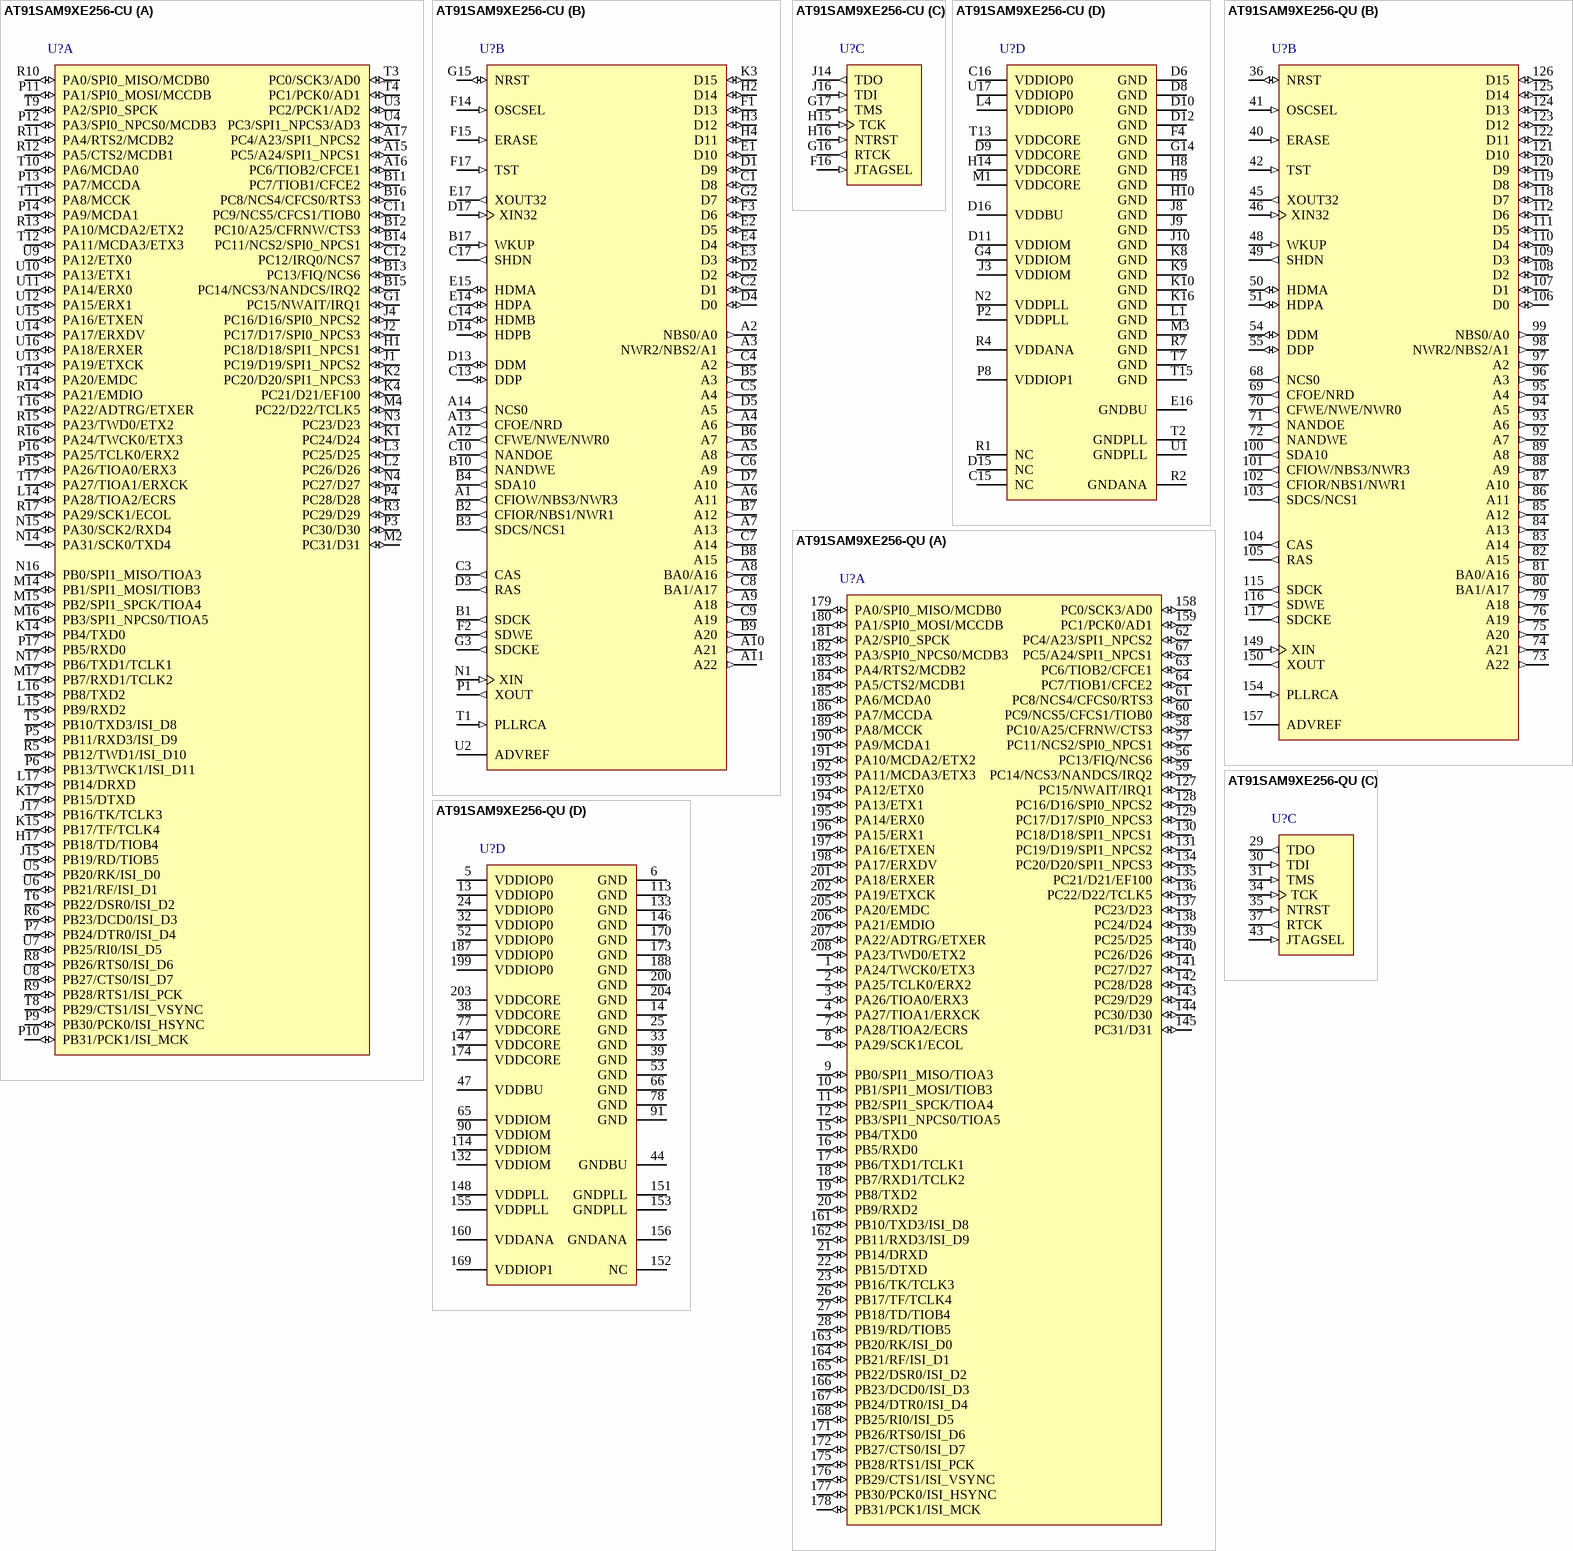
[diagram p42: symbols AT91SAM9XE256-CU to AT91SAM9XE256-QU]

## AT91SAM9XE256-CU
designator U?
AT91 ARM Thumb 32-bit Microcontroller, 256KB Flash, 32KB ROM, 32KB SRAM, EBI, E-MAC, FS USB, ISI, 217-Pin LFBGA, Industrial Grade (-40°C to 85°C), Pb-Free; DatasheetVersion: revC, Jan-2010; PackageVersion: 2011; PackageReference: LFBGA217; PackageDescription: 217-Ball Plastic Low Profile Fine-Pitch BGA, 15 x 15 mm Body, 0.8 mm Pitch; Code_JEDEC: MO-205; ComponentLink1Description: Manufacturer URL; ComponentLink1URL: http://www.atmel.com/; ComponentLink2Description: AT91SAM9XE128/256/512 Datasheet; ComponentLink2URL: http://www.atmel.com/dyn/resources/prod_documents/doc6254.pdf; ComponentLink3Description: AT91SAM9XE128/256/512 Summary; ComponentLink3URL: http://www.atmel.com/dyn/resources/prod_documents/6254s.pdf; ComponentLink4Description: ARM926EJ-S Reference Manual; ComponentLink4URL: http://www.atmel.com/dyn/resources/prod_documents/ARM_926EJS_TRM.pdf
footprint LFBGA217 (BGA, 208-Leads, Body 15x15mm, Pitch 0.8mm, Solder Mask Defined Pads)
part A pins: A15 PC5/A24/SPI1_NPCS1 (io), A16 PC6/TIOB2/CFCE1 (io), A17 PC4/A23/SPI1_NPCS2 (io), B11 PC7/TIOB1/CFCE2 (io), B12 PC10/A25/CFRNW/CTS3 (io), B13 PC13/FIQ/NCS6 (io), B14 PC11/NCS2/SPI0_NPCS1 (io), B15 PC14/NCS3/NANDCS/IRQ2 (io), B16 PC8/NCS4/CFCS0/RTS3 (io), C11 PC9/NCS5/CFCS1/TIOB0 (io), C12 PC12/IRQ0/NCS7 (io), G1 PC15/NWAIT/IRQ1 (io), H1 PC18/D18/SPI1_NPCS1 (io), H17 PB18/TD/TIOB4 (io), J1 PC19/D19/SPI1_NPCS2 (io), J2 PC17/D17/SPI0_NPCS3 (io), J4 PC16/D16/SPI0_NPCS2 (io), J15 PB19/RD/TIOB5 (io), J17 PB16/TK/TCLK3 (io), K1 PC24/D24 (io), K2 PC20/D20/SPI1_NPCS3 (io), K4 PC21/D21/EF100 (io), K14 PB4/TXD0 (io), K15 PB17/TF/TCLK4 (io), K17 PB15/DTXD (io), L2 PC26/D26 (io), L3 PC25/D25 (io), L14 PA28/TIOA2/ECRS (io), L15 PB9/RXD2 (io), L16 PB8/TXD2 (io), L17 PB14/DRXD (io), M2 PC31/D31 (io), M4 PC22/D22/TCLK5 (io), M14 PB1/SPI1_MOSI/TIOB3 (io), M15 PB2/SPI1_SPCK/TIOA4 (io), M16 PB3/SPI1_NPCS0/TIOA5 (io), M17 PB7/RXD1/TCLK2 (io), N3 PC23/D23 (io), N4 PC27/D27 (io), N14 PA31/SCK0/TXD4 (io), N15 PA30/SCK2/RXD4 (io), N16 PB0/SPI1_MISO/TIOA3 (io), N17 PB6/TXD1/TCLK1 (io), P3 PC30/D30 (io), P4 PC28/D28 (io), P5 PB11/RXD3/ISI_D9 (io), P6 PB13/TWCK1/ISI_D11 (io), P7 PB24/DTR0/ISI_D4 (io), P9 PB30/PCK0/ISI_HSYNC (io), P10 PB31/PCK1/ISI_MCK (io), P11 PA1/SPI0_MOSI/MCCDB (io), P12 PA3/SPI0_NPCS0/MCDB3 (io), P13 PA7/MCCDA (io), P14 PA9/MCDA1 (io), P15 PA26/TIOA0/ERX3 (io), P16 PA25/TCLK0/ERX2 (io), P17 PB5/RXD0 (io), R3 PC29/D29 (io), R5 PB12/TWD1/ISI_D10 (io), R6 PB23/DCD0/ISI_D3 (io), R8 PB26/RTS0/ISI_D6 (io), R9 PB28/RTS1/ISI_PCK (io), R10 PA0/SPI0_MISO/MCDB0 (io), R11 PA4/RTS2/MCDB2 (io), R12 PA5/CTS2/MCDB1 (io), R13 PA10/MCDA2/ETX2 (io), R14 PA21/EMDIO (io), R15 PA23/TWD0/ETX2 (io), R16 PA24/TWCK0/ETX3 (io), R17 PA29/SCK1/ECOL (io), T3 PC0/SCK3/AD0 (io), T4 PC1/PCK0/AD1 (io), T5 PB10/TXD3/ISI_D8 (io), T6 PB22/DSR0/ISI_D2 (io), T8 PB29/CTS1/ISI_VSYNC (io), T9 PA2/SPI0_SPCK (io), T10 PA6/MCDA0 (io), T11 PA8/MCCK (io), T12 PA11/MCDA3/ETX3 (io), T14 PA20/EMDC (io), T16 PA22/ADTRG/ETXER (io), T17 PA27/TIOA1/ERXCK (io), U3 PC2/PCK1/AD2 (io), U4 PC3/SPI1_NPCS3/AD3 (io), U5 PB20/RK/ISI_D0 (io), U6 PB21/RF/ISI_D1 (io), U7 PB25/RI0/ISI_D5 (io), U8 PB27/CTS0/ISI_D7 (io), U9 PA12/ETX0 (io), U10 PA13/ETX1 (io), U11 PA14/ERX0 (io), U12 PA15/ERX1 (io), U13 PA19/ETXCK (io), U14 PA17/ERXDV (io), U15 PA16/ETXEN (io), U16 PA18/ERXER (io)
part B pins: A1 CFIOW/NBS3/NWR3 (out), A2 NBS0/A0 (out), A3 NWR2/NBS2/A1 (out), A4 A6 (out), A5 A8 (out), A6 A11 (out), A7 A13 (out), A8 BA0/A16 (out), A9 A18 (out), A10 A21 (out), A11 A22 (out), A12 CFWE/NWE/NWR0 (out), A13 CFOE/NRD (out), A14 NCS0 (out), B1 SDCK (out), B2 CFIOR/NBS1/NWR1 (out), B3 SDCS/NCS1 (out), B4 SDA10 (out), B5 A3 (out), B6 A7 (out), B7 A12 (out), B8 A15 (out), B9 A20 (out), B10 NANDWE (out), B17 WKUP (in), C1 D8 (io), C2 D1 (io), C3 CAS (out), C4 A2 (out), C5 A4 (out), C6 A9 (out), C7 A14 (out), C8 BA1/A17 (out), C9 A19 (out), C10 NANDOE (out), C13 DDP (io), C14 HDMB (io), C17 SHDN (out), D1 D9 (io), D2 (io), D3 RAS (out), D4 D0 (io), D5 A5 (out), D7 A10 (out), D13 DDM (io), D14 HDPB (io), D17 XIN32 (in), E1 D10 (io), E2 D5 (io), E3 D3 (io), E4 D4 (io), E14 HDPA (io), E15 HDMA (io), E17 XOUT32 (out), F1 D13 (io), F2 SDWE (out), F3 D6 (io), F14 OSCSEL (in), F15 ERASE (in), F17 TST (in), G2 D7 (io), G3 SDCKE (out), G15 NRST (io), H2 D14 (io), H3 D12 (io), H4 D11 (io), K3 D15 (io), N1 XIN (in), P1 XOUT (out), T1 PLLRCA (in), U2 ADVREF (power)
part C pins: F16 JTAGSEL (in), G16 RTCK (out), G17 TMS (in), H15 TCK (in), H16 NTRST (in), J14 TDO (out), J16 TDI (in)
part D pins: C15 NC, C16 VDDIOP0 (power), D6 GND (power), D8 GND (power), D9 VDDCORE (power), D10 GND (power), D11 VDDIOM (power), D12 GND (power), D15 NC, D16 VDDBU (power), E16 GNDBU (power), F4 GND (power), G4 VDDIOM (power), G14 GND (power), H8 GND (power), H9 GND (power), H10 GND (power), H14 VDDCORE (power), J3 VDDIOM (power), J8 GND (power), J9 GND (power), J10 GND (power), K8 GND (power), K9 GND (power), K10 GND (power), K16 GND (power), L1 GND (power), L4 VDDIOP0 (power), M1 VDDCORE (power), M3 GND (power), N2 VDDPLL (power), P2 VDDPLL (power), P8 VDDIOP1 (power), R1 NC, R2 GNDANA (power), R4 VDDANA (power), R7 GND (power), T2 GNDPLL (power), T7 GND (power), T13 VDDCORE (power), T15 GND (power), U1 GNDPLL (power), U17 VDDIOP0 (power)

## AT91SAM9XE256-QU
designator U?
AT91 ARM Thumb 32-bit Microcontroller, 256KB Flash, 32KB ROM, 32KB SRAM, EBI, E-MAC, FS USB, ISI, 208-Pin PQFP, Industrial Grade (-40°C to 85°C), Pb-Free; DatasheetVersion: revC, Jan-2010; PackageVersion: Jul-2005; PackageReference: QFP208; PackageDescription: 208-Pin Plastic Shrink Quad Flat Pack 0.5 mm Pitch; Code_JEDEC: MS-022; ComponentLink1Description: Manufacturer URL; ComponentLink1URL: http://www.atmel.com/; ComponentLink2Description: AT91SAM9XE128/256/512 Datasheet; ComponentLink2URL: http://www.atmel.com/dyn/resources/prod_documents/doc6254.pdf; ComponentLink3Description: AT91SAM9XE128/256/512 Summary; ComponentLink3URL: http://www.atmel.com/dyn/resources/prod_documents/6254s.pdf; ComponentLink4Description: ARM926EJ-S Reference Manual; ComponentLink4URL: http://www.atmel.com/dyn/resources/prod_documents/ARM_926EJS_TRM.pdf
footprint QFP208_N (Shrink QFP, 208-Leads, Body 28x28mm, Pitch 0.5mm, IPC Medium Density)
footprint QFP208_L (Shrink QFP, 208-Leads, Body 28x28mm, Pitch 0.5mm, IPC High Density)
footprint QFP208_M (Shrink QFP, 208-Leads, Body 28x28mm, Pitch 0.5mm, IPC Low Density)
part A pins: 1 PA24/TWCK0/ETX3 (io), 2 PA25/TCLK0/ERX2 (io), 3 PA26/TIOA0/ERX3 (io), 4 PA27/TIOA1/ERXCK (io), 7 PA28/TIOA2/ECRS (io), 8 PA29/SCK1/ECOL (io), 9 PB0/SPI1_MISO/TIOA3 (io), 10 PB1/SPI1_MOSI/TIOB3 (io), 11 PB2/SPI1_SPCK/TIOA4 (io), 12 PB3/SPI1_NPCS0/TIOA5 (io), 15 PB4/TXD0 (io), 16 PB5/RXD0 (io), 17 PB6/TXD1/TCLK1 (io), 18 PB7/RXD1/TCLK2 (io), 19 PB8/TXD2 (io), 20 PB9/RXD2 (io), 21 PB14/DRXD (io), 22 PB15/DTXD (io), 23 PB16/TK/TCLK3 (io), 26 PB17/TF/TCLK4 (io), 27 PB18/TD/TIOB4 (io), 28 PB19/RD/TIOB5 (io), 56 PC13/FIQ/NCS6 (io), 57 PC11/NCS2/SPI0_NPCS1 (io), 58 PC10/A25/CFRNW/CTS3 (io), 59 PC14/NCS3/NANDCS/IRQ2 (io), 60 PC9/NCS5/CFCS1/TIOB0 (io), 61 PC8/NCS4/CFCS0/RTS3 (io), 62 PC4/A23/SPI1_NPCS2 (io), 63 PC6/TIOB2/CFCE1 (io), 64 PC7/TIOB1/CFCE2 (io), 67 PC5/A24/SPI1_NPCS1 (io), 127 PC15/NWAIT/IRQ1 (io), 128 PC16/D16/SPI0_NPCS2 (io), 129 PC17/D17/SPI0_NPCS3 (io), 130 PC18/D18/SPI1_NPCS1 (io), 131 PC19/D19/SPI1_NPCS2 (io), 134 PC20/D20/SPI1_NPCS3 (io), 135 PC21/D21/EF100 (io), 136 PC22/D22/TCLK5 (io), 137 PC23/D23 (io), 138 PC24/D24 (io), 139 PC25/D25 (io), 140 PC26/D26 (io), 141 PC27/D27 (io), 142 PC28/D28 (io), 143 PC29/D29 (io), 144 PC30/D30 (io), 145 PC31/D31 (io), 158 PC0/SCK3/AD0 (io), 159 PC1/PCK0/AD1 (io), 161 PB10/TXD3/ISI_D8 (io), 162 PB11/RXD3/ISI_D9 (io), 163 PB20/RK/ISI_D0 (io), 164 PB21/RF/ISI_D1 (io), 165 PB22/DSR0/ISI_D2 (io), 166 PB23/DCD0/ISI_D3 (io), 167 PB24/DTR0/ISI_D4 (io), 168 PB25/RI0/ISI_D5 (io), 171 PB26/RTS0/ISI_D6 (io), 172 PB27/CTS0/ISI_D7 (io), 175 PB28/RTS1/ISI_PCK (io), 176 PB29/CTS1/ISI_VSYNC (io), 177 PB30/PCK0/ISI_HSYNC (io), 178 PB31/PCK1/ISI_MCK (io), 179 PA0/SPI0_MISO/MCDB0 (io), 180 PA1/SPI0_MOSI/MCCDB (io), 181 PA2/SPI0_SPCK (io), 182 PA3/SPI0_NPCS0/MCDB3 (io), 183 PA4/RTS2/MCDB2 (io), 184 PA5/CTS2/MCDB1 (io), 185 PA6/MCDA0 (io), 186 PA7/MCCDA (io), 189 PA8/MCCK (io), 190 PA9/MCDA1 (io), 191 PA10/MCDA2/ETX2 (io), 192 PA11/MCDA3/ETX3 (io), 193 PA12/ETX0 (io), 194 PA13/ETX1 (io), 195 PA14/ERX0 (io), 196 PA15/ERX1 (io), 197 PA16/ETXEN (io), 198 PA17/ERXDV (io), 201 PA18/ERXER (io), 202 PA19/ETXCK (io), 205 PA20/EMDC (io), 206 PA21/EMDIO (io), 207 PA22/ADTRG/ETXER (io), 208 PA23/TWD0/ETX2 (io)
part B pins: 36 NRST (io), 40 ERASE (in), 41 OSCSEL (in), 42 TST (in), 45 XOUT32 (out), 46 XIN32 (in), 48 WKUP (in), 49 SHDN (out), 50 HDMA (io), 51 HDPA (io), 54 DDM (io), 55 DDP (io), 68 NCS0 (out), 69 CFOE/NRD (out), 70 CFWE/NWE/NWR0 (out), 71 NANDOE (out), 72 NANDWE (out), 73 A22 (out), 74 A21 (out), 75 A20 (out), 76 A19 (out), 79 A18 (out), 80 BA1/A17 (out), 81 BA0/A16 (out), 82 A15 (out), 83 A14 (out), 84 A13 (out), 85 A12 (out), 86 A11 (out), 87 A10 (out), 88 A9 (out), 89 A8 (out), 92 A7 (out), 93 A6 (out), 94 A5 (out), 95 A4 (out), 96 A3 (out), 97 A2 (out), 98 NWR2/NBS2/A1 (out), 99 NBS0/A0 (out), 100 SDA10 (out), 101 CFIOW/NBS3/NWR3 (out), 102 CFIOR/NBS1/NWR1 (out), 103 SDCS/NCS1 (out), 104 CAS (out), 105 RAS (out), 106 D0 (io), 107 D1 (io), 108 D2 (io), 109 D3 (io), 110 D4 (io), 111 D5 (io), 112 D6 (io), 115 SDCK (out), 116 SDWE (out), 117 SDCKE (out), 118 D7 (io), 119 D8 (io), 120 D9 (io), 121 D10 (io), 122 D11 (io), 123 D12 (io), 124 D13 (io), 125 D14 (io), 126 D15 (io), 149 XIN (in), 150 XOUT (out), 154 PLLRCA (in), 157 ADVREF (power)
part C pins: 29 TDO (out), 30 TDI (in), 31 TMS (in), 34 TCK (in), 35 NTRST (in), 37 RTCK (out), 43 JTAGSEL (in)
part D pins: 5 VDDIOP0 (power), 6 GND (power), 13 VDDIOP0 (power), 14 GND (power), 24 VDDIOP0 (power), 25 GND (power), 32 VDDIOP0 (power), 33 GND (power), 38 VDDCORE (power), 39 GND (power), 44 GNDBU (power), 47 VDDBU (power), 52 VDDIOP0 (power), 53 GND (power), 65 VDDIOM (power), 66 GND (power), 77 VDDCORE (power), 78 GND (power), 90 VDDIOM (power), 91 GND (power), 113 GND (power), 114 VDDIOM (power), 132 VDDIOM (power), 133 GND (power), 146 GND (power), 147 VDDCORE (power), 148 VDDPLL (power), 151 GNDPLL (power), 152 NC, 153 GNDPLL (power), 155 VDDPLL (power), 156 GNDANA (power), 160 VDDANA (power), 169 VDDIOP1 (power), 170 GND (power), 173 GND (power), 174 VDDCORE (power), 187 VDDIOP0 (power), 188 GND (power), 199 VDDIOP0 (power), 200 GND (power), 203 VDDCORE (power), 204 GND (power)

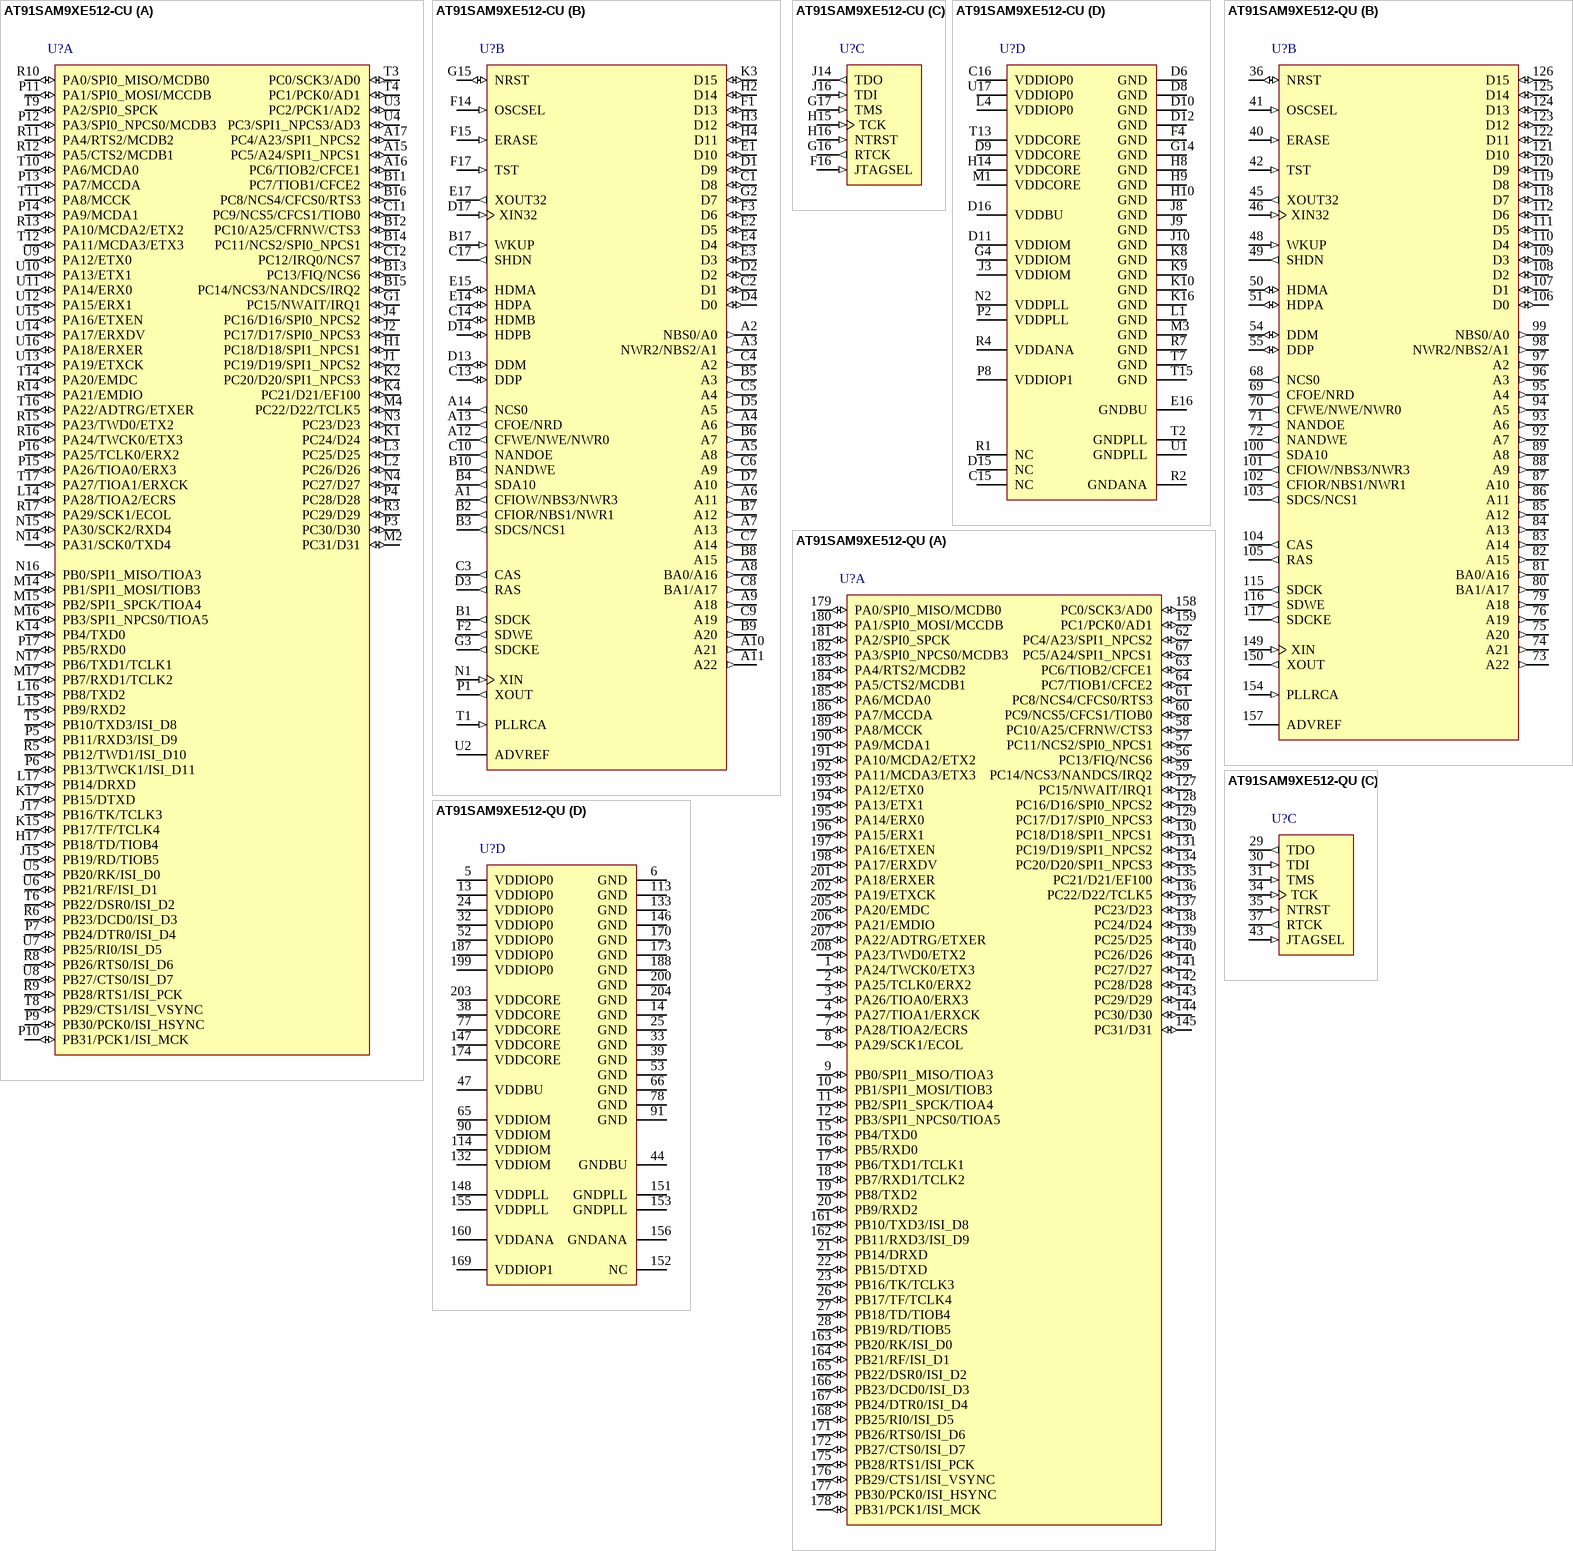
[diagram p43: symbols AT91SAM9XE512-CU to AT91SAM9XE512-QU]

## AT91SAM9XE512-CU
designator U?
AT91 ARM Thumb 32-bit Microcontroller, 512KB Flash, 32KB ROM, 32KB SRAM, EBI, E-MAC, FS USB, ISI, 217-Pin LFBGA, Industrial Grade (-40°C to 85°C), Pb-Free; DatasheetVersion: revC, Jan-2010; PackageVersion: 2011; PackageReference: LFBGA217; PackageDescription: 217-Ball Plastic Low Profile Fine-Pitch BGA, 15 x 15 mm Body, 0.8 mm Pitch; Code_JEDEC: MO-205; ComponentLink1Description: Manufacturer URL; ComponentLink1URL: http://www.atmel.com/; ComponentLink2Description: AT91SAM9XE128/256/512 Datasheet; ComponentLink2URL: http://www.atmel.com/dyn/resources/prod_documents/doc6254.pdf; ComponentLink3Description: AT91SAM9XE128/256/512 Summary; ComponentLink3URL: http://www.atmel.com/dyn/resources/prod_documents/6254s.pdf; ComponentLink4Description: ARM926EJ-S Reference Manual; ComponentLink4URL: http://www.atmel.com/dyn/resources/prod_documents/ARM_926EJS_TRM.pdf
footprint LFBGA217 (BGA, 208-Leads, Body 15x15mm, Pitch 0.8mm, Solder Mask Defined Pads)
part A pins: A15 PC5/A24/SPI1_NPCS1 (io), A16 PC6/TIOB2/CFCE1 (io), A17 PC4/A23/SPI1_NPCS2 (io), B11 PC7/TIOB1/CFCE2 (io), B12 PC10/A25/CFRNW/CTS3 (io), B13 PC13/FIQ/NCS6 (io), B14 PC11/NCS2/SPI0_NPCS1 (io), B15 PC14/NCS3/NANDCS/IRQ2 (io), B16 PC8/NCS4/CFCS0/RTS3 (io), C11 PC9/NCS5/CFCS1/TIOB0 (io), C12 PC12/IRQ0/NCS7 (io), G1 PC15/NWAIT/IRQ1 (io), H1 PC18/D18/SPI1_NPCS1 (io), H17 PB18/TD/TIOB4 (io), J1 PC19/D19/SPI1_NPCS2 (io), J2 PC17/D17/SPI0_NPCS3 (io), J4 PC16/D16/SPI0_NPCS2 (io), J15 PB19/RD/TIOB5 (io), J17 PB16/TK/TCLK3 (io), K1 PC24/D24 (io), K2 PC20/D20/SPI1_NPCS3 (io), K4 PC21/D21/EF100 (io), K14 PB4/TXD0 (io), K15 PB17/TF/TCLK4 (io), K17 PB15/DTXD (io), L2 PC26/D26 (io), L3 PC25/D25 (io), L14 PA28/TIOA2/ECRS (io), L15 PB9/RXD2 (io), L16 PB8/TXD2 (io), L17 PB14/DRXD (io), M2 PC31/D31 (io), M4 PC22/D22/TCLK5 (io), M14 PB1/SPI1_MOSI/TIOB3 (io), M15 PB2/SPI1_SPCK/TIOA4 (io), M16 PB3/SPI1_NPCS0/TIOA5 (io), M17 PB7/RXD1/TCLK2 (io), N3 PC23/D23 (io), N4 PC27/D27 (io), N14 PA31/SCK0/TXD4 (io), N15 PA30/SCK2/RXD4 (io), N16 PB0/SPI1_MISO/TIOA3 (io), N17 PB6/TXD1/TCLK1 (io), P3 PC30/D30 (io), P4 PC28/D28 (io), P5 PB11/RXD3/ISI_D9 (io), P6 PB13/TWCK1/ISI_D11 (io), P7 PB24/DTR0/ISI_D4 (io), P9 PB30/PCK0/ISI_HSYNC (io), P10 PB31/PCK1/ISI_MCK (io), P11 PA1/SPI0_MOSI/MCCDB (io), P12 PA3/SPI0_NPCS0/MCDB3 (io), P13 PA7/MCCDA (io), P14 PA9/MCDA1 (io), P15 PA26/TIOA0/ERX3 (io), P16 PA25/TCLK0/ERX2 (io), P17 PB5/RXD0 (io), R3 PC29/D29 (io), R5 PB12/TWD1/ISI_D10 (io), R6 PB23/DCD0/ISI_D3 (io), R8 PB26/RTS0/ISI_D6 (io), R9 PB28/RTS1/ISI_PCK (io), R10 PA0/SPI0_MISO/MCDB0 (io), R11 PA4/RTS2/MCDB2 (io), R12 PA5/CTS2/MCDB1 (io), R13 PA10/MCDA2/ETX2 (io), R14 PA21/EMDIO (io), R15 PA23/TWD0/ETX2 (io), R16 PA24/TWCK0/ETX3 (io), R17 PA29/SCK1/ECOL (io), T3 PC0/SCK3/AD0 (io), T4 PC1/PCK0/AD1 (io), T5 PB10/TXD3/ISI_D8 (io), T6 PB22/DSR0/ISI_D2 (io), T8 PB29/CTS1/ISI_VSYNC (io), T9 PA2/SPI0_SPCK (io), T10 PA6/MCDA0 (io), T11 PA8/MCCK (io), T12 PA11/MCDA3/ETX3 (io), T14 PA20/EMDC (io), T16 PA22/ADTRG/ETXER (io), T17 PA27/TIOA1/ERXCK (io), U3 PC2/PCK1/AD2 (io), U4 PC3/SPI1_NPCS3/AD3 (io), U5 PB20/RK/ISI_D0 (io), U6 PB21/RF/ISI_D1 (io), U7 PB25/RI0/ISI_D5 (io), U8 PB27/CTS0/ISI_D7 (io), U9 PA12/ETX0 (io), U10 PA13/ETX1 (io), U11 PA14/ERX0 (io), U12 PA15/ERX1 (io), U13 PA19/ETXCK (io), U14 PA17/ERXDV (io), U15 PA16/ETXEN (io), U16 PA18/ERXER (io)
part B pins: A1 CFIOW/NBS3/NWR3 (out), A2 NBS0/A0 (out), A3 NWR2/NBS2/A1 (out), A4 A6 (out), A5 A8 (out), A6 A11 (out), A7 A13 (out), A8 BA0/A16 (out), A9 A18 (out), A10 A21 (out), A11 A22 (out), A12 CFWE/NWE/NWR0 (out), A13 CFOE/NRD (out), A14 NCS0 (out), B1 SDCK (out), B2 CFIOR/NBS1/NWR1 (out), B3 SDCS/NCS1 (out), B4 SDA10 (out), B5 A3 (out), B6 A7 (out), B7 A12 (out), B8 A15 (out), B9 A20 (out), B10 NANDWE (out), B17 WKUP (in), C1 D8 (io), C2 D1 (io), C3 CAS (out), C4 A2 (out), C5 A4 (out), C6 A9 (out), C7 A14 (out), C8 BA1/A17 (out), C9 A19 (out), C10 NANDOE (out), C13 DDP (io), C14 HDMB (io), C17 SHDN (out), D1 D9 (io), D2 (io), D3 RAS (out), D4 D0 (io), D5 A5 (out), D7 A10 (out), D13 DDM (io), D14 HDPB (io), D17 XIN32 (in), E1 D10 (io), E2 D5 (io), E3 D3 (io), E4 D4 (io), E14 HDPA (io), E15 HDMA (io), E17 XOUT32 (out), F1 D13 (io), F2 SDWE (out), F3 D6 (io), F14 OSCSEL (in), F15 ERASE (in), F17 TST (in), G2 D7 (io), G3 SDCKE (out), G15 NRST (io), H2 D14 (io), H3 D12 (io), H4 D11 (io), K3 D15 (io), N1 XIN (in), P1 XOUT (out), T1 PLLRCA (in), U2 ADVREF (power)
part C pins: F16 JTAGSEL (in), G16 RTCK (out), G17 TMS (in), H15 TCK (in), H16 NTRST (in), J14 TDO (out), J16 TDI (in)
part D pins: C15 NC, C16 VDDIOP0 (power), D6 GND (power), D8 GND (power), D9 VDDCORE (power), D10 GND (power), D11 VDDIOM (power), D12 GND (power), D15 NC, D16 VDDBU (power), E16 GNDBU (power), F4 GND (power), G4 VDDIOM (power), G14 GND (power), H8 GND (power), H9 GND (power), H10 GND (power), H14 VDDCORE (power), J3 VDDIOM (power), J8 GND (power), J9 GND (power), J10 GND (power), K8 GND (power), K9 GND (power), K10 GND (power), K16 GND (power), L1 GND (power), L4 VDDIOP0 (power), M1 VDDCORE (power), M3 GND (power), N2 VDDPLL (power), P2 VDDPLL (power), P8 VDDIOP1 (power), R1 NC, R2 GNDANA (power), R4 VDDANA (power), R7 GND (power), T2 GNDPLL (power), T7 GND (power), T13 VDDCORE (power), T15 GND (power), U1 GNDPLL (power), U17 VDDIOP0 (power)